# Altium schematic symbol library SchlibLafe.SchLib: 395 symbols (part 2 of 4)
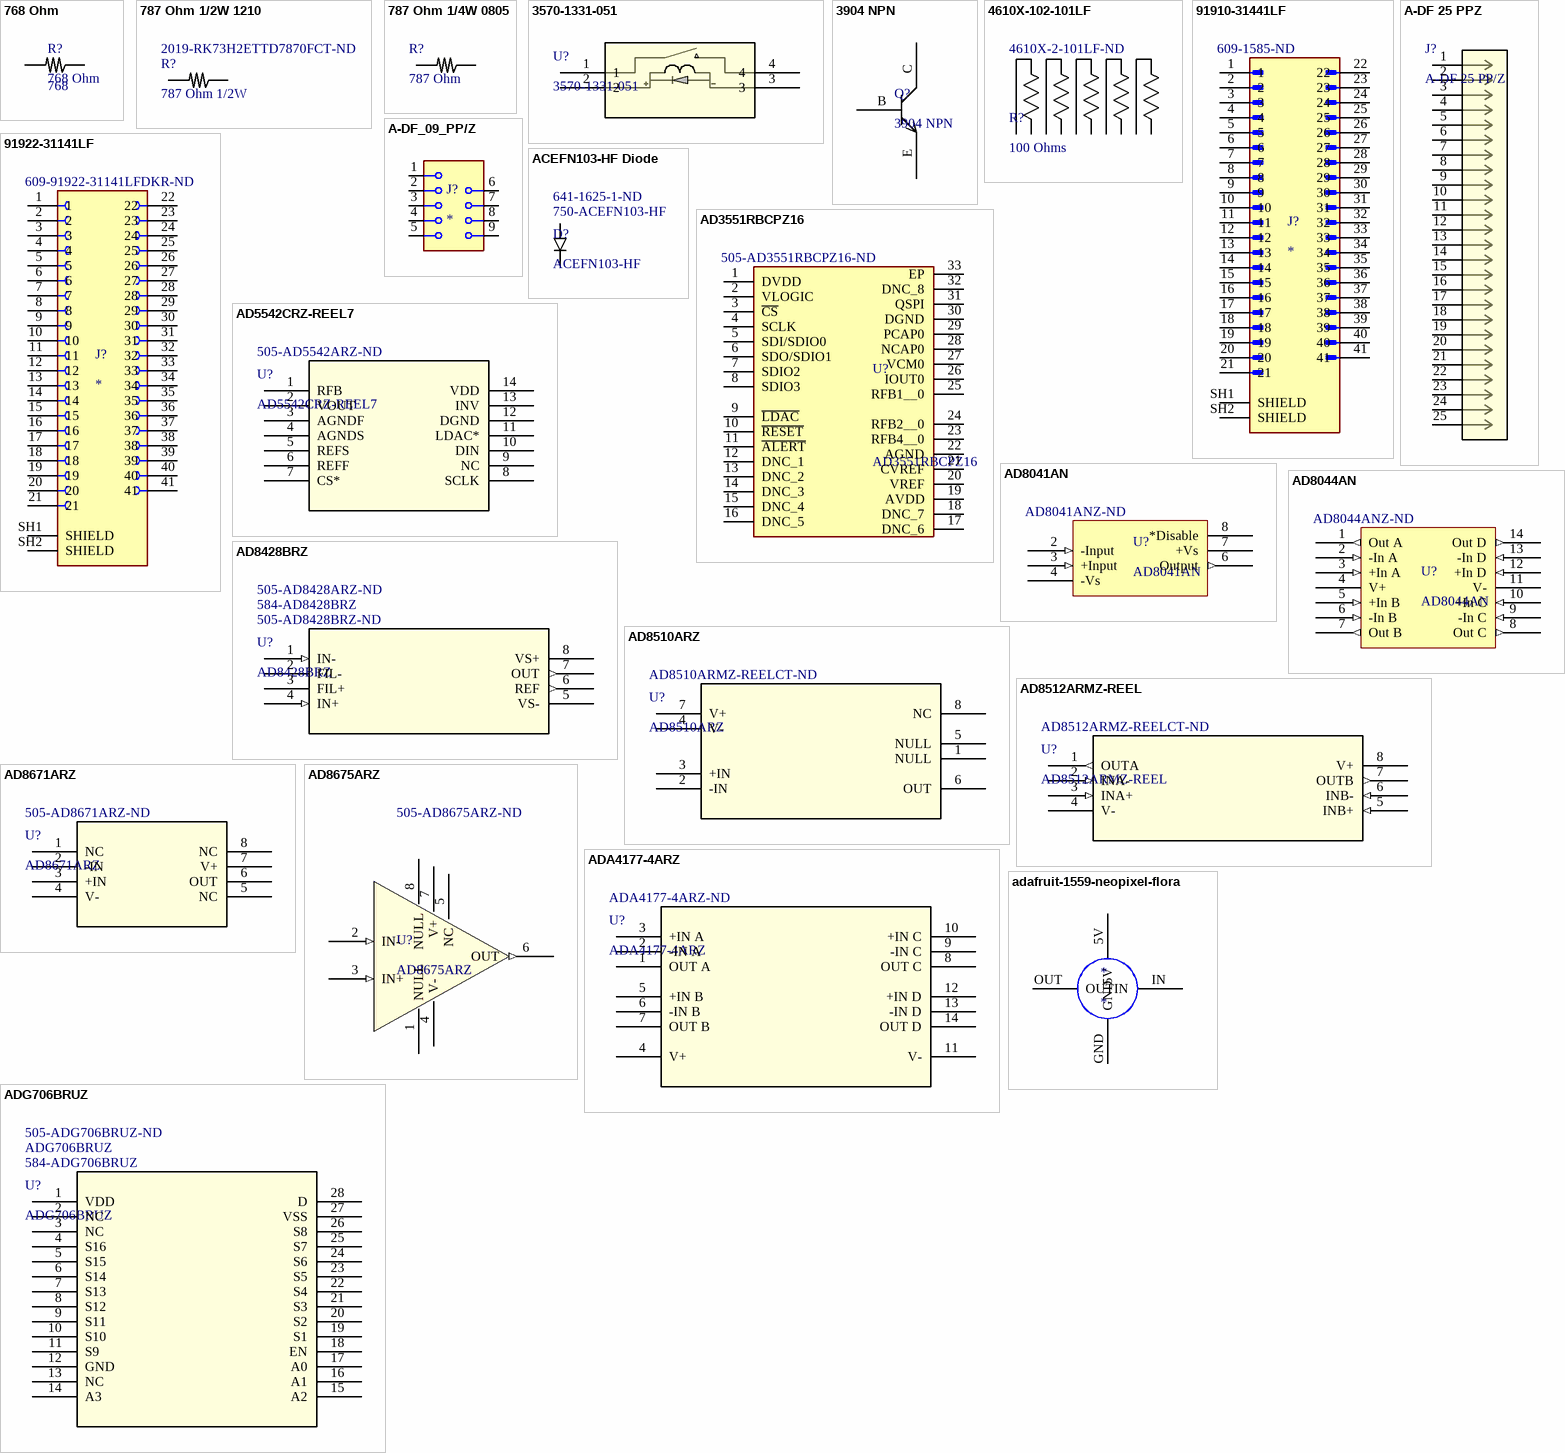
[diagram p13: symbols 768 Ohm to ADG706BRUZ]

## 787 Ohm 1/4W 0805
designator R?, comment 787 Ohm
787 Ohm resistor 0805 1/4W; Manufacturer_Part_Number: RNCP0805FTD1K00; Vendor: Stackpole International; Built_By: EMA_UL_Team; Copyright: Copyright (C) 2018 Accelerated Designs. All rights reserved; RefDes: RefDes; Type: DEV; Value: Value; Supplier 1: Digi-Key; Supplier Part Number 1: P21007CT-ND
footprint 6-0805 (Chip Resistor; Body 2 x 1.2 mm (LxW typ))
pins: 1, 2

## 3570-1331-051
designator U?
No Description Available; Mfr_Name: Comus; Copyright: Copyright (C) 2024 Ultra Librarian. All rights reserved.; Manufacturer_Part_Number: 3570-1331-051; RefDes: RefDes; Type: DEV
footprint SIP_3570-1331_COM
pins: 1, 2, 3, 4

## 3904 NPN
designator Q?
3409 NPN; Supplier 1: RSComponents; Supplier Part Number 1: 1841002
footprint SOT23-323
pins: B 1, C 3, E 2

## 4610X-102-101LF
designator R?, comment 100 Ohms  Supplier Part Number 1: 4610X-2-101LF-ND
RES ARRAY 5 RES 100 OHM 10SIP; Manufacturer_Part_Number: 4610X-102-101LF; Vendor: Bourns Electronics; Built_By: EMA_UL_Team; SourceLibrary: Bourns_2014-12-31; Copyright: Copyright (C) 2018 Accelerated Designs. All rights reserved; RefDes: RefDes; Type: DEV; Supplier 1: Digi-Key
footprint BO_4610X
pins: 1, 2, 3, 4, 5, 6, 7, 8, 9, 10

## 91910-31441LF
designator J?  Supplier Part Number 1: 609-1585-ND
41 Position Connector Header, Center Strip Contacts Surface Mount Gold or Gold, GXT™; MF: Amphenol ICC (FCI); MP: 91910-31441LF; Package: None; Price: None; Value: *; Availability: Unavailable; Supplier 1: Digi-Key
footprint AMPHENOL_91910-31441LF
pins: 1, 2, 3, 4, 5, 6, 7, 8, 9, 10, 11, 12, 13, 14, 15, 16, 17, 18, 19, 20, 21, 22, 23, 24, 25, 26, 27, 28, 29, 30, 31, 32, 33, 34, 35, 36, 37, 38, 39, 40, 41, SH1 SHIELD, SH2 SHIELD

## 91922-31141LF
designator J?  Supplier Part Number 1: 609-91922-31141LFDKR-ND
41 Position Connector Receptacle, Outer Shroud Contacts Surface Mount Gold or Gold, GXT™; MF: {'manufacturer': u'Amphenol ICC (FCI)'}; MP: 91922-31141LF; Package: None; Price: None; Value: *; Availability: Unavailable; Supplier 1: Digi-Key
footprint AMPHENOL_91922-31141LF
pins: 1, 2, 3, 4, 5, 6, 7, 8, 9, 10, 11, 12, 13, 14, 15, 16, 17, 18, 19, 20, 21, 22, 23, 24, 25, 26, 27, 28, 29, 30, 31, 32, 33, 34, 35, 36, 37, 38, 39, 40, 41, SH1 SHIELD, SH2 SHIELD

## A-DF 25 PPZ
designator J?, comment A-DF 25 PP/Z
No Description Available; Mfr_Name: Assmann; Copyright: Copyright (C) 2024 Ultra Librarian. All rights reserved.; Manufacturer_Part_Number: A-DF 25 PP/Z; RefDes: RefDes; Type: DEV
footprint CONN_A-DF 25 PPZ_ASM
pins: 1, 2, 3, 4, 5, 6, 7, 8, 9, 10, 11, 12, 13, 14, 15, 16, 17, 18, 19, 20, 21, 22, 23, 24, 25

## A-DF_09_PP/Z
designator J?
CONN D-SUB RCPT 9POS VERT SOLDER; MP: A-DF_09_PP/Z; Package: None; Price: None; Value: *; Availability: Unavailable
footprint ASSMANN_A-DF_09_PP/Z
pins: 1, 2, 3, 4, 5, 6, 7, 8, 9

## ACEFN103-HF Diode
designator D?, comment ACEFN103-HF  Supplier Part Number 1: 750-ACEFN103-HF  Supplier Part Number 2: 641-1625-1-ND
DIODE GEN PURP 600V 1A 1206; Supplier 1: Mouser; Supplier 2: Digi-Key
footprint 8-1206 diode (Chip diode Body 3.1 x 1.6 mm (LxW typ))
pins: 1, 2

## AD3551RBCPZ16
designator U?  Supplier Part Number 1: 505-AD3551RBCPZ16-ND
16 Bit Digital to Analog Converter 1 32-LFCSP (5x5); Mfr_name: Analog Devices; Geometry.Height: 1mm; Notes: Pin 1 to dot; Manufacturer_Part_Number: AD3551RBCPZ16; Mouser Part Number: 584-AD3551RBCPZ16; Mouser Price/Stock: https://www.mouser.co.uk/ProductDetail/Analog-Devices/AD3551RBCPZ16?qs=MyNHzdoqoQJmAZaaW95Gzw%3D%3D; Arrow Part Number: AD3551RBCPZ16; Arrow Price/Stock: https://www.arrow.com/en/products/ad3551rbcpz16/analog-devices?region=nac; Datasheet Link: https://www.analog.com/media/en/technical-documentation/data-sheets/ad3551r.pdf; Supplier 1: Digi-Key; Desc_Value: 16 Bit Digital to Analog Converter 1 32-LFCSP (5x5); Vendor URL: https://www.digikey.com/en/products/detail/analog-devices-inc/AD3551RBCPZ16/16187362; ComponentLink1Description: Datasheet; ComponentLink1URL: https://www.analog.com/media/en/technical-documentation/data-sheets/ad3551r.pdf; Package: 32-LFCSP; Mounting Type: SMT
footprint QFN50P500X500X100-33N-D
pins: 1 DVDD, 2 VLOGIC, 3 ~{CS}, 4 SCLK, 5 SDI/SDIO0, 6 SDO/SDIO1, 7 SDIO2, 8 SDIO3, 9 ~{LDAC}, 10 ~{RESET}, 11 ~{ALERT}, 12 DNC_1, 13 DNC_2, 14 DNC_3, 15 DNC_4, 16 DNC_5, 17 DNC_6, 18 DNC_7, 19 AVDD, 20 VREF, 21 CVREF, 22 AGND, 23 RFB4__0, 24 RFB2__0, 25 RFB1__0, 26 IOUT0, 27 VCM0, 28 NCAP0, 29 PCAP0, 30 DGND, 31 QSPI, 32 DNC_8, 33 EP

## AD5542CRZ-REEL7
designator U?  Supplier Part Number 1: 505-AD5542ARZ-ND
16 Bit Digital to Analog Converter 1 14-SOIC; Mfr_Name: Analog Devices Inc; Copyright: Copyright (C) 2022 Ultra Librarian. All rights reserved.; Manufacturer_Part_Number: AD5542CRZ-REEL7; Digi-Key_Part_Number_1: AD5542CRZ-REEL7-ND; Digi-Key_Part_Number_2: AD5542CRZ-REEL7CT-ND; Digi-Key_Part_Number_3: AD5542CRZ-REEL7DKR-ND; Digi-Key_Part_Number_4: AD5542CRZ-REEL7TR-ND; RefDes: RefDes; Type: DEV; Supplier 1: Digi-Key
footprint R_14_ADI
pins: 1 RFB, 2 VOUT, 3 AGNDF, 4 AGNDS, 5 REFS, 6 REFF, 7 CS*, 8 SCLK, 9 NC, 10 DIN, 11 LDAC*, 12 DGND, 13 INV, 14 VDD (power)

## AD8041AN
designator U?  Supplier Part Number 1: AD8041ANZ-ND
Voltage Feedback Amplifier 1 Circuit Rail-to-Rail 8-PDIP; Supplier 1: Digi-Key
footprint N_8
pins: 1 NC hidden, 2 -Input (in), 3 +Input (in), 4 -Vs, 5 NC hidden, 6 Output (out), 7 +Vs, 8 *Disable

## AD8044AN
designator U?  Supplier Part Number 1: AD8044ANZ-ND
Voltage Feedback Amplifier 4 Circuit Rail-to-Rail 14-PDIP; Supplier 1: Digi-Key
simulation model AD8044a (AD8044)
footprint N_14
pins: 1 Out A (out), 2 -In A (in), 3 +In A (in), 4 V+, 5 +In B (in), 6 -In B (in), 7 Out B (out), 8 Out C (out), 9 -In C (in), 10 +In C (in), 11 V-, 12 +In D (in), 13 -In D (in), 14 Out D (out)

## AD8428BRZ
designator U?  Supplier Part Number 1: 505-AD8428BRZ-ND  Supplier Part Number 2: 584-AD8428BRZ  Supplier Part Number 3: 505-AD8428ARZ-ND
Instrumentation Amplifier 1 Circuit 8-SOIC; Mfr_Name: Analog Devices Inc; Manufacturer_Part_Number: AD8428ARZ; Copyright: Copyright (C) 2021 Ultra Librarian. All rights reserved.; Digi-Key_Part_Number_1: AD8428ARZ-ND; Digi-Key_Part_Number_2: 2156-AD8428ARZ-ND; RefDes: RefDes; Type: DEV; Supplier 1: Digi-Key; Supplier 2: Mouser; Supplier 3: Digi-Key
footprint R_8_ADI
simulation model AD8428 (Model Description)
pins: 1 IN- (in), 2 FIL-, 3 FIL+, 4 IN+ (in), 5 VS- (power), 6 REF (out), 7 OUT (out), 8 VS+ (power)

## AD8510ARZ
designator U?  Supplier Part Number 1: AD8510ARMZ-REELCT-ND
IC OPAMP JFET 1 CIRCUIT 8MSOP; Copyright: Copyright (C) 2018 Accelerated Designs. All rights reserved; RefDes: RefDes; Type: DEV; Supplier 1: Digi-Key
footprint R_8
pins: 1 NULL, 2 -IN, 3 +IN, 4 V-, 5 NULL, 6 OUT, 7 V+, 8 NC

## AD8512ARMZ-REEL
designator U?  Supplier Part Number 1: AD8512ARMZ-REELCT-ND
IC OPAMP JFET 2 CIRCUIT 8MSOP; Mfr_Name: Analog Devices Inc; Copyright: Copyright (C) 2022 Ultra Librarian. All rights reserved.; Manufacturer_Part_Number: AD8512ARMZ-REEL; Digi-Key_Part_Number_1: AD8512ARMZ-REELCT-ND; Digi-Key_Part_Number_2: AD8512ARMZ-REELDKR-ND; Digi-Key_Part_Number_3: AD8512ARMZ-REELTR-ND; RefDes: RefDes; Type: DEV; Supplier 1: Digi-Key
footprint RM_8_ADI
pins: 1 OUTA (out), 2 INA- (in), 3 INA+ (in), 4 V- (power), 5 INB+ (in), 6 INB- (in), 7 OUTB (out), 8 V+ (power)

## AD8671ARZ
designator U?  Supplier Part Number 1: 505-AD8671ARZ-ND
IC OPAMP GP 1 CIRCUIT 8SOIC; Mfr_Name: Analog Devices Inc; Copyright: Copyright (C) 2022 Ultra Librarian. All rights reserved.; Manufacturer_Part_Number: AD8671ARZ; Digi-Key_Part_Number_1: AD8671ARZ-ND; Digi-Key_Part_Number_2: 2156-AD8671ARZ-ND; RefDes: RefDes; Type: DEV; Supplier 1: Digi-Key
footprint R_8_ADI
simulation model AD8671 (Model Description)
pins: 1 NC, 2 -IN, 3 +IN, 4 V- (power), 5 NC, 6 OUT, 7 V+ (power), 8 NC

## AD8675ARZ
designator U?  Supplier Part Number 1: 505-AD8675ARZ-ND
General Purpose Amplifier 1 Circuit Rail-to-Rail 8-SOIC; Mfr_Name: Analog Devices Inc; Desc_Value: IC OPAMP GP 1 CIRCUIT 8SOIC; Notes: Pin 1 to dot; Copyright: Copyright (C) 2023 Ultra Librarian. All rights reserved.; Manufacturer_Part_Number: AD8675ARZ; RefDes: RefDes; Type: DEV; Supplier 1: Digi-Key; Vendor URL: https://www.digikey.com/en/products/detail/analog-devices-inc/AD8675ARZ/1217542; Package: 8SOIC; Mounting Type: SMT
footprint R_8_ADI
pins: 1 NULL, 2 IN- (in), 3 IN+ (in), 4 V- (power), 5 NC, 6 OUT (out), 7 V+ (power), 8 NULL

## ADA4177-4ARZ
designator U?  Supplier Part Number 1: ADA4177-4ARZ-ND
Quad 25mA opamp; Mfr_Name: Analog Devices Inc; Copyright: Copyright (C) 2021 Ultra Librarian. All rights reserved.; Manufacturer_Part_Number: ADA4177-4ARZ; Digi-Key_Part_Number_1: ADA4177-4ARZ-ND; Digi-Key_Part_Number_2: 2156-ADA4177-4ARZ-ND; RefDes: RefDes; Type: DEV; Supplier 1: Digi-Key
footprint R_14_ADI
pins: 1 OUT A, 2 -IN A, 3 +IN A, 4 V+, 5 +IN B, 6 -IN B, 7 OUT B, 8 OUT C, 9 -IN C, 10 +IN C, 11 V-, 12 +IN D, 13 -IN D, 14 OUT D

## adafruit-1559-neopixel-flora
designator *
footprint adafruit-1559-neopixel-flora
pins: 5V, GND, IN, OUT

## ADG706BRUZ
designator U?  Supplier Part Number 1: 584-ADG706BRUZ  Supplier Part Number 3: 505-ADG706BRUZ-ND
IC MUX 16:1 4.5OHM 28TSSOP; Mfr_Name: Analog Devices Inc; Manufacturer_Part_Number: ADG706BRUZ-REEL; Copyright: Copyright (C) 2021 Ultra Librarian. All rights reserved.; Digi-Key_Part_Number_1: ADG706BRUZ-REELCT-ND; Digi-Key_Part_Number_2: ADG706BRUZ-REELDKR-ND; Digi-Key_Part_Number_3: ADG706BRUZ-REELTR-ND; RefDes: RefDes; Type: DEV; Supplier 1: Mouser; Supplier 2: Arrow Electronics; Supplier 3: Digi-Key; Supplier Part Number 2: ADG706BRUZ
footprint RU_28_ADI
pins: 1 VDD (power), 2 NC, 3 NC, 4 S16, 5 S15, 6 S14, 7 S13, 8 S12, 9 S11, 10 S10, 11 S9, 12 GND, 13 NC, 14 A3, 15 A2, 16 A1, 17 A0, 18 EN, 19 S1, 20 S2, 21 S3, 22 S4, 23 S5, 24 S6, 25 S7, 26 S8, 27 VSS (power), 28 D

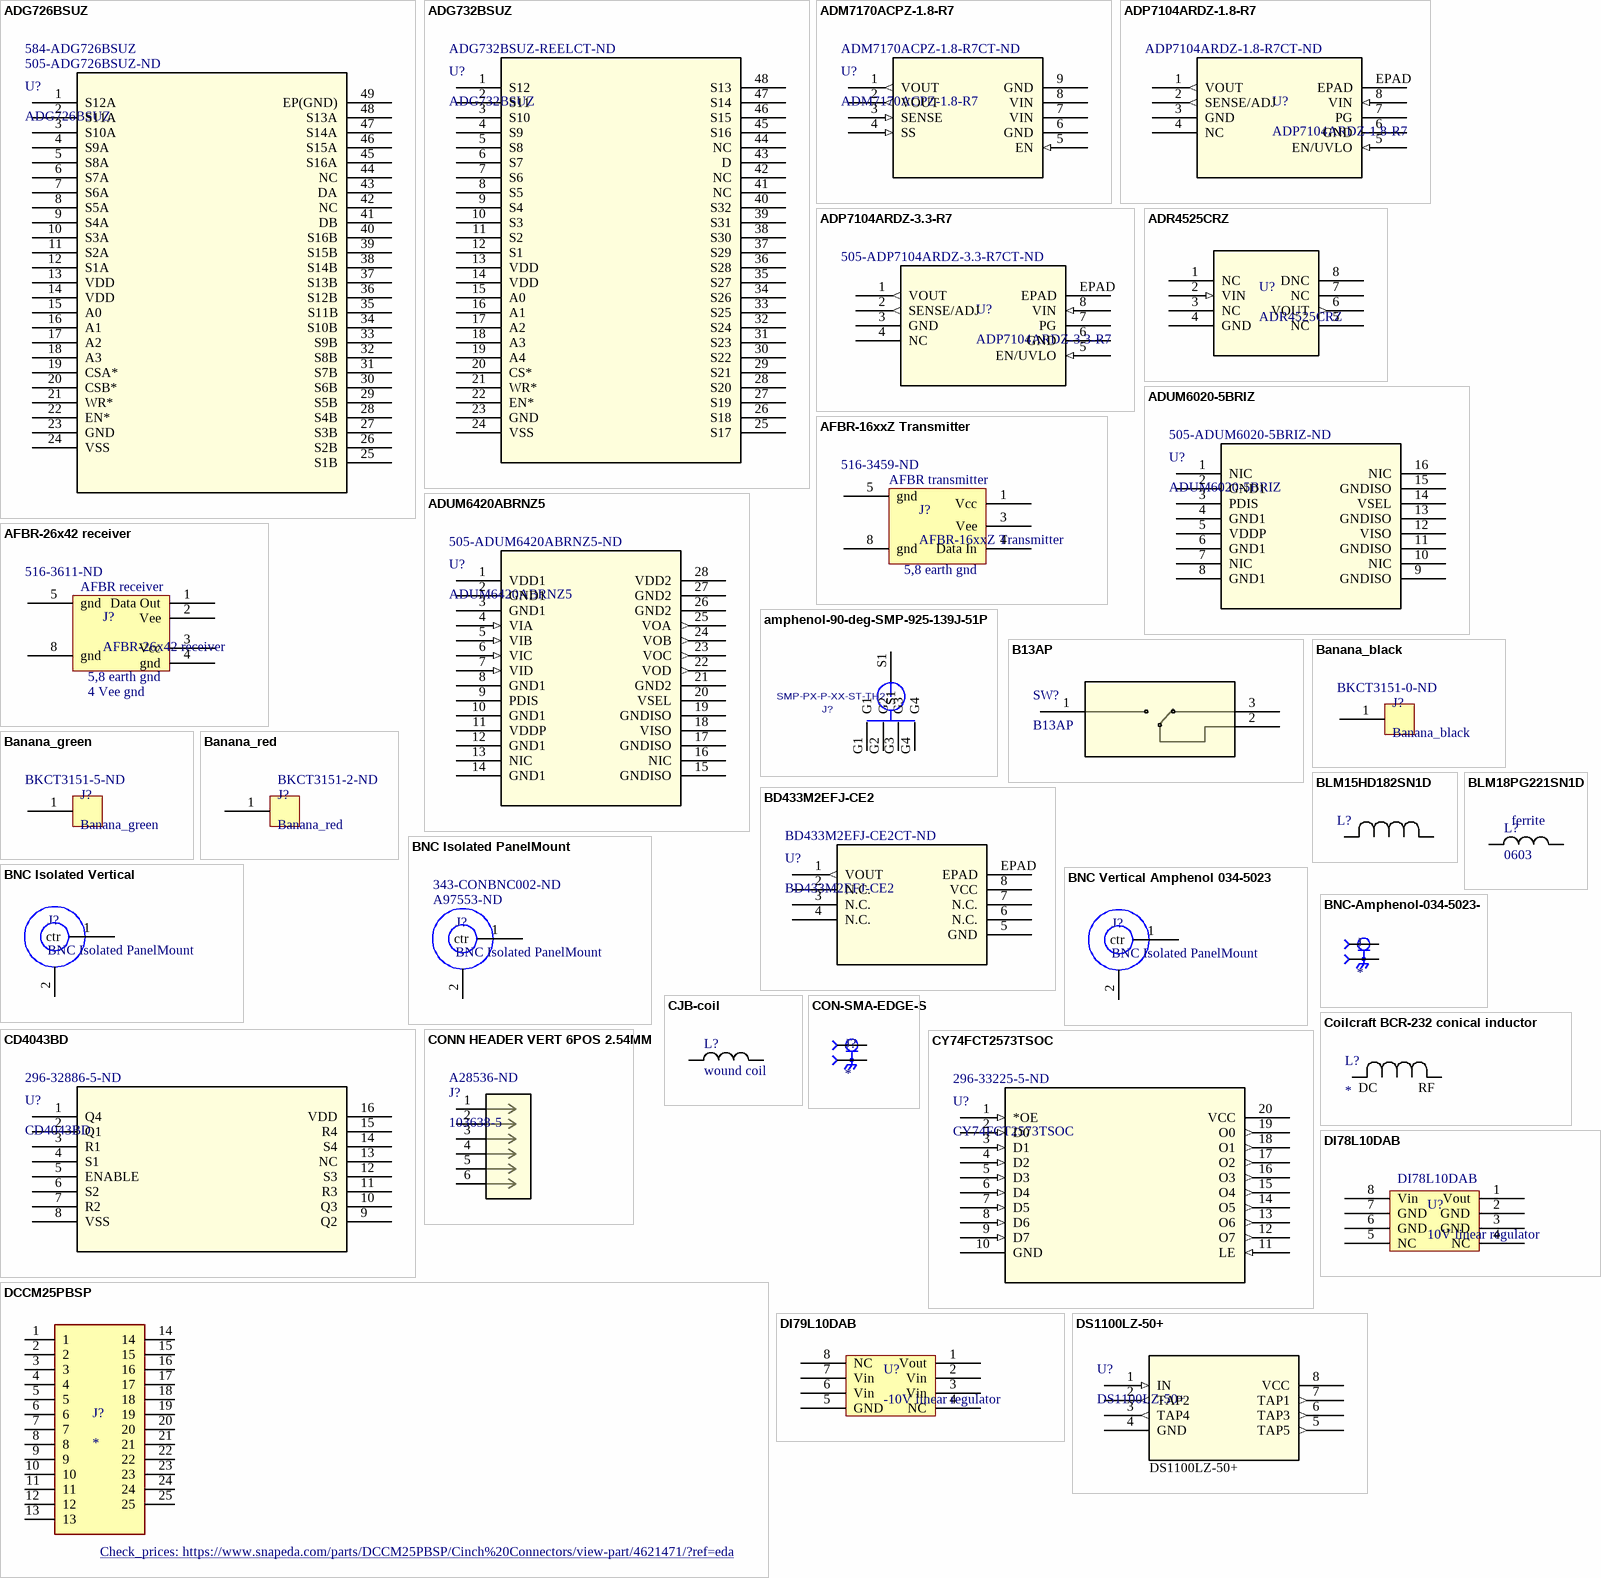
[diagram p5: symbols ADG726BSUZ to DS1100LZ-50+]

## ADG726BSUZ
designator U?  Supplier Part Number 1: 505-ADG726BSUZ-ND  Supplier Part Number 2: 584-ADG726BSUZ
2 Circuit IC Switch 16:1 5.5Ohm 48-TQFP (7x7); Mfr_Name: Analog Devices Inc; Copyright: Copyright (C) 2021 Ultra Librarian. All rights reserved.; Manufacturer_Part_Number: ADG726BSUZ; Digi-Key_Part_Number_1: ADG726BSUZ-ND; RefDes: RefDes; Type: DEV; Supplier 1: Digi-Key; Supplier 2: Mouser
footprint SU_48_ADI
pins: 1 S12A, 2 S11A, 3 S10A, 4 S9A, 5 S8A, 6 S7A, 7 S6A, 8 S5A, 9 S4A, 10 S3A, 11 S2A, 12 S1A, 13 VDD (power), 14 VDD (power), 15 A0, 16 A1, 17 A2, 18 A3, 19 CSA*, 20 CSB*, 21 WR*, 22 EN*, 23 GND, 24 VSS (power), 25 S1B, 26 S2B, 27 S3B, 28 S4B, 29 S5B, 30 S6B, 31 S7B, 32 S8B, 33 S9B, 34 S10B, 35 S11B, 36 S12B, 37 S13B, 38 S14B, 39 S15B, 40 S16B, 41 DB, 42 NC, 43 DA, 44 NC, 45 S16A, 46 S15A, 47 S14A, 48 S13A, 49 EP(GND)

## ADG732BSUZ
designator U?  Supplier Part Number 1: ADG732BSUZ-REELCT-ND
IC MUX 32:1 5.5OHM 48TQFP; Vendor: Analog Devices Inc; Built_By: EMA_UL_Team; SourceLibrary: Analog_2012-01-01_7; Manufacturer_Part_Number: ADG732BSUZ; Copyright: Copyright (C) 2018 Accelerated Designs. All rights reserved; RefDes: RefDes; Type: DEV; Supplier 1: Digi-Key
footprint SU_48_ADI
pins: 1 S12, 2 S11, 3 S10, 4 S9, 5 S8, 6 S7, 7 S6, 8 S5, 9 S4, 10 S3, 11 S2, 12 S1, 13 VDD (power), 14 VDD (power), 15 A0, 16 A1, 17 A2, 18 A3, 19 A4, 20 CS*, 21 WR*, 22 EN*, 23 GND, 24 VSS (power), 25 S17, 26 S18, 27 S19, 28 S20, 29 S21, 30 S22, 31 S23, 32 S24, 33 S25, 34 S26, 35 S27, 36 S28, 37 S29, 38 S30, 39 S31, 40 S32, 41 NC, 42 NC, 43 D, 44 NC, 45 S16, 46 S15, 47 S14, 48 S13

## ADM7170ACPZ-1.8-R7
designator U?  Supplier Part Number 1: ADM7170ACPZ-1.8-R7CT-ND
Linear Voltage Regulator IC Positive Fixed 1 Output 500mA 8-LFCSP-WD (3x3); Mfr_Name: Analog Devices Inc; Type: DEV; Copyright: Copyright (C) 2023 Ultra Librarian. All rights reserved.; Manufacturer_Part_Number: ADM7170ACPZ-1.8-R7; RefDes: RefDes; Supplier 1: Digi-Key
footprint CP-8-21_ADI
pins: 1 VOUT (out), 2 VOUT (out), 3 SENSE (in), 4 SS (in), 5 EN (in), 6 GND (power), 7 VIN (power), 8 VIN (power), 9 GND (power)

## ADP7104ARDZ-1.8-R7
designator U?  Supplier Part Number 1: ADP7104ARDZ-1.8-R7CT-ND
IC REG LINEAR 1.8V 500MA 8SOIC; Mfr_Name: Analog Devices Inc; Notes: Pin 1 to dot; Copyright: Copyright (C) 2023 Ultra Librarian. All rights reserved.; Manufacturer_Part_Number: ADP7104ARDZ-1.8-R7; RefDes: RefDes; Type: DEV; Supplier 1: Digi-Key; Desc_Value: IC REG LINEAR 1.8V 500MA 8SOIC; Vendor URL: https://www.digikey.com/en/products/detail/analog-devices-inc/ADP7104ARDZ-1-8-R7/3232858; Package: 8SOIC; Mounting Type: SMT; ComponentLink1Description: Datasheet; ComponentLink1URL: https://www.analog.com/media/en/technical-documentation/data-sheets/ADP7104.pdf
footprint RD_8_2_ADI
pins: 1 VOUT (out), 2 SENSE/ADJ (out), 3 GND (power), 4 NC, 5 EN/UVLO (in), 6 GND (power), 7 PG (power), 8 VIN (in), EPAD

## ADP7104ARDZ-3.3-R7
designator U?  Supplier Part Number 1: 505-ADP7104ARDZ-3.3-R7CT-ND
Linear Voltage Regulator IC Positive Fixed 1 Output 500mA 8-SOIC-EP; Mfr_Name: Analog Devices Inc; Desc_Value: IC REG LINEAR 3.3V 500MA 8SOIC; Notes: Pin to dot; Copyright: Copyright (C) 2023 Ultra Librarian. All rights reserved.; Manufacturer_Part_Number: ADP7104ARDZ-3.3-R7; RefDes: RefDes; Type: DEV; Supplier 1: Digi-Key; Vendor URL: https://www.digikey.com/en/products/detail/analog-devices-inc/ADP7104ARDZ-3-3-R7/3232850; Package: 8SOIC; Mounting Type: SMT; ComponentLink1Description: Datasheet; ComponentLink1URL: https://www.analog.com/media/en/technical-documentation/data-sheets/ADP7104.pdf
footprint RD_8_2_ADI
pins: 1 VOUT (out), 2 SENSE/ADJ (out), 3 GND (power), 4 NC, 5 EN/UVLO (in), 6 GND (power), 7 PG (power), 8 VIN (in), EPAD

## ADR4525CRZ
designator U?
Series Voltage Reference IC Fixed 2.5V V ±0.02% 10 mA 8-SOIC; Mfr_Name: Analog Devices Inc; Manufacturer_Part_Number: ADR4525CRZ-R7; Desc_Value: IC VREF SERIES 0.02% 8SOIC; Notes: Pin 1 to dot; Copyright: Copyright (C) 2023 Ultra Librarian. All rights reserved.; RefDes: RefDes; Type: DEV; Supplier 1: Digi-Key; Supplier Part Number 1: 505-ADR4525CRZ-ND; Vendor URL: https://www.digikey.com/en/products/detail/analog-devices-inc/ADR4525CRZ-R7/9806176; Package: 8SOIC; Mounting Type: SMT; ComponentLink1Description: Datasheet; ComponentLink1URL: https://www.analog.com/media/en/technical-documentation/data-sheets/ADR4520_4525_4530_4533_4540_4550.pdf
footprint R_8_ADI
pins: 1 NC, 2 VIN (in), 3 NC, 4 GND (power), 5 NC, 6 VOUT (out), 7 NC, 8 DNC

## ADUM6020-5BRIZ
designator U?  Supplier Part Number 1: 505-ADUM6020-5BRIZ-ND
Isolated Module DC DC Converter 1 Output 3.3V, 5V 100mA 4.5V - 5.5V Input; Mfr_Name: Analog Devices Inc; Desc_Value: DC DC CONVERTER 3.3V 5V 0.5W; Notes: Pin 1 to dot; Copyright: Copyright (C) 2023 Ultra Librarian. All rights reserved.; Manufacturer_Part_Number: ADUM6020-5BRIZ; RefDes: RefDes; Type: DEV; Supplier 1: Digi-Key; Vendor URL: https://www.digikey.com/en/products/detail/analog-devices-inc/ADUM6020-5BRIZ/9485497; Package: 16SOIC; Mounting Type: SMT
footprint ADUM6020-5BRIZ_ADI
pins: 1 NIC, 2 GND1, 3 PDIS, 4 GND1, 5 VDDP, 6 GND1, 7 NIC, 8 GND1, 9 GNDISO, 10 NIC, 11 GNDISO, 12 VISO, 13 GNDISO, 14 VSEL, 15 GNDISO, 16 NIC

## ADUM6420ABRNZ5
designator U?  Supplier Part Number 1: 505-ADUM6420ABRNZ5-ND
General Purpose Digital Isolator 5000Vrms 4 Channel 100Mbps 75kV/µs CMTI 28-BSSOP (0.295", 7.50mm Width); Mfr_Name: Analog Devices Inc; Desc_Value: DGTL ISO 5KV 4CH GEN PRP 28SOIC; Notes: Pin 1 to dot; Type: DEV; Copyright: Copyright (C) 2023 Ultra Librarian. All rights reserved.; Manufacturer_Part_Number: ADUM6420ABRNZ5; RefDes: RefDes; Supplier 1: Digi-Key; Vendor URL: https://www.digikey.com/en/products/detail/analog-devices-inc/ADUM6420ABRNZ5/11587195; Package: SOIC-28; Mounting Type: SMT; ComponentLink1Description: Datasheet; ComponentLink1URL: https://www.analog.com/media/en/technical-documentation/data-sheets/adum6420a-6421a-6422a_6423a_6424a.pdf
footprint RN-28-1_ADI
pins: 1 VDD1 (power), 2 GND1 (power), 3 GND1 (power), 4 VIA (in), 5 VIB (in), 6 VIC (in), 7 VID (in), 8 GND1 (power), 9 PDIS, 10 GND1 (power), 11 VDDP (power), 12 GND1 (power), 13 NIC, 14 GND1 (power), 15 GNDISO (power), 16 NIC, 17 GNDISO (power), 18 VISO (power), 19 GNDISO (power), 20 VSEL (power), 21 GND2 (power), 22 VOD (out), 23 VOC (out), 24 VOB (out), 25 VOA (out), 26 GND2 (power), 27 GND2 (power), 28 VDD2 (power)

## AFBR-16xxZ Transmitter
designator J?  Supplier Part Number 1: 516-3459-ND
Fiber Optic Transmitter 650nm Versatile Link; Supplier 1: Digi-Key
footprint AFBR-2634Z_1
pins: 1 Vcc, 3 Vee, 4 Data In, 5 gnd, 8 gnd
text: AFBR transmitter; 5,8 earth gnd

## AFBR-26x42 receiver
designator J?  Supplier Part Number 1: 516-3611-ND
Fiber Optic Receiver General Purpose 50MBd -22dBm 3.3V, 5V 30 mA; Supplier 1: Digi-Key
footprint AFBR-2634Z_1
pins: 1 Data Out, 2 Vee, 3 Vcc, 4 gnd, 5 gnd, 8 gnd
text: AFBR receiver; 5,8 earth gnd; 4 Vee gnd

## amphenol-90-deg-SMP-925-139J-51P
designator J?, comment SMP-PX-P-XX-ST-TH2
SMP THROUGH HOLE PLUG - 50 OHM.; MANUFACTURER: SAMTEC; CREATED: October 23, 2015 - Wendy Xin; PCB DECAL: SMP-PX-P-XX-ST-TH2
footprint amphenol-smp-90deg-925-139J-51P
pins: G1, G2, G3, G4, S1

## B13AP
designator SW?
No Description Available; Mfr_Name: NKK Switches; Copyright: Copyright (C) 2024 Ultra Librarian. All rights reserved.; Manufacturer_Part_Number: B13AP; RefDes: RefDes; Type: DEV
footprint B13AP_NKK
pins: 1, 2, 3

## Banana_black
designator J?  Supplier Part Number 1: BKCT3151-0-ND
pcb mount, right angle banana; Supplier 1: Digi-Key
footprint banana - pcb mount (pcb mount, thru hole, right angle panel mount)
pins: 1

## Banana_green
designator J?  Supplier Part Number 1: BKCT3151-5-ND
pcb mount, right angle banana; Supplier 1: Digi-Key
footprint banana - pcb mount (pcb mount, thru hole, right angle panel mount)
pins: 1

## Banana_red
designator J?  Supplier Part Number 1: BKCT3151-2-ND
pcb mount, right angle banana; Supplier 1: Digi-Key
footprint banana - pcb mount (pcb mount, thru hole, right angle panel mount)
pins: 1

## BD433M2EFJ-CE2
designator U?  Supplier Part Number 1: BD433M2EFJ-CE2CT-ND
IC LDO 3.3V 200mA; Mfr_Name: ROHM Semiconductor; Copyright: Copyright (C) 2022 Ultra Librarian. All rights reserved.; Manufacturer_Part_Number: BD433M2EFJ-CE2; Digi-Key_Part_Number_1: BD433M2EFJ-CE2TR-ND; Digi-Key_Part_Number_2: BD433M2EFJ-CE2CT-ND; Digi-Key_Part_Number_3: BD433M2EFJ-CE2DKR-ND; RefDes: RefDes; Type: DEV; Supplier 1: Digi-Key
footprint HTSOP-J8_ROM
pins: 1 VOUT (out), 2 N.C., 3 N.C., 4 N.C., 5 GND, 6 N.C., 7 N.C., 8 VCC (power), EPAD

## BLM15HD182SN1D
designator L?  (value not drawn)
1.8 kOhms @ 100 MHz 1 Signal Line Ferrite Bead 0402 (1005 Metric) 200mA 2.2Ohm; Mfr_Name: Murata; Type: DEV; Desc_Value: FERRITE BEAD 1.8K OHM 0402 1LN; Copyright: Copyright (C) 2023 Ultra Librarian. All rights reserved.; Manufacturer_Part_Number: BLM15HD182SN1D; RefDes: RefDes; Supplier 1: Digi-Key; Supplier Part Number 1: 490-5196-1-ND; Vendor URL: https://www.digikey.com/en/products/detail/murata-electronics/BLM15HD182SN1D/1948302; Package: 0402; Mounting Type: SMT
footprint IND_BLM15_0402_MUR
pins: 1, 2

## BLM18PG221SN1D
designator L?, comment 0603
ferrite; Supplier 1: Digi-Key; Supplier Part Number 1: 490-5221-1-ND
footprint 3-0603 (Chip Resistor; Body 1.6 x 0.9 mm (LxW typ))
pins: 1, 2

## BNC Isolated PanelMount
designator J?  Supplier Part Number 1: A97553-ND  Supplier Part Number 2: 343-CONBNC002-ND
BNC; Supplier 1: Digi-Key; Supplier 2: Digi-Key
footprint conn2_1-1337543-
pins: 1 ctr, 2 gnd

## BNC Isolated Vertical
designator J?, comment BNC Isolated PanelMount
CONN BNC JACK STR 50 OHM PCB; Supplier 1: Digi-Key; Supplier Part Number 1: A32262-ND
footprint CONN_5227222-3_TYC
pins: 1 ctr, 2 gnd

## BNC Vertical Amphenol 034-5023
designator J?, comment BNC Isolated PanelMount
BNC Vertical Amphenol 034-5023; Supplier 1: Newark; Supplier Part Number 1: 90W0187
footprint BNC-amphenol-034-5023 (BNC thru hole, panel mount)
pins: 1 ctr, 2 gnd

## BNC-Amphenol-034-5023-
designator J
BNC panel mount thru hole; MF: Samtec; MP: SMA-J-P-H-ST-TH1; Package: None; Value: *; Price: None; Toby_UK-Purchase-URL: https://snapeda.com/shop?store=Toby+UK&id=134499; DigiKey-Purchase-URL: https://snapeda.com/shop?store=DigiKey&id=134499; Availability: Unavailable; SnapEDA_Link: https://www.snapeda.com/parts/SMA-J-P-H-ST-TH1/Samtec%20Inc./view-part/134499/?ref=snap; Supplier 1: Newark; Supplier Part Number 1: 90W0187
footprint BNC-Amphenol-034-5023-
pins: ctr, gnd

## CD4043BD
designator U?  Supplier Part Number 1: 296-32886-5-ND
CMOS Quad NOR R/S Latch with 3-State Outputs; Manufacturer: Texas Instruments; INDUSTRY_STD_PKG_TYPE: SOIC; FAMILY_NAME: OTHER LATCH; PIN_COUNT: 16; PACKAGE_DESIGNATOR: D; Datasheet_URL: http://www.ti.com/lit/gpn/CD4043B; GENERIC_PART_NUMBER: CD4043B; Copyright: Copyright (C) 2021 Accelerated Designs. All rights reserved; RefDes: RefDes; Type: DEV; Supplier 1: Digi-Key
footprint D16
pins: 1 Q4, 2 Q1, 3 R1, 4 S1, 5 ENABLE, 6 S2, 7 R2, 8 VSS (power), 9 Q2, 10 Q3, 11 R3, 12 S3, 13 NC, 14 S4, 15 R4, 16 VDD (power)

## CJB-coil
designator L?, comment wound coil
INDUCTOR
footprint CJB-coil inductor
pins: 1, 2

## Coilcraft BCR-232 conical inductor
designator L?
No Description Available; Mfr_Name: Murata
footprint Coilcraft BCR-232 conical inductor
pins: 1, 2
text: DC / DC; RF

## CON-SMA-EDGE-S
designator J?
SMA Connector Jack, Female Socket - Board Edge, End Launch Solder; MF: RF Solutions; MP: CON-SMA-EDGE-S; Value: *; SnapEDA_Link: https://www.snapeda.com/parts/CON-SMA-EDGE-S/RF+Solutions/view-part/?ref=snap; Purchase-URL: https://pricing.snapeda.com/search/part/CON-SMA-EDGE-S/?ref=eda; Check_prices: https://www.snapeda.com/parts/CON-SMA-EDGE-S/RF+Solutions/view-part/?ref=eda; Digi-Key_Part_Number: CON-SMA-EDGE-S-ND; Package: None
footprint RFSOLUTIONS_CON-SMA-EDGE-S
pins: 1, G1 2, G2 2, G3 2, G4 2

## CONN HEADER VERT 6POS 2.54MM
designator J?, comment 103638-5  Supplier Part Number 1: A28536-ND
Connector Header Through Hole 6 position 0.100" (2.54mm); Vendor: TE Connectivity; Built_By: EMA_Anthony; ROWS/CONFIG: 1; PITCH(MM): 2.54; POSITIONS: 6; SourceLibrary: TE_Connectivity_250_Part_Delivery_1_2018-08-13; Copyright: Copyright (C) 2016 Accelerated Designs. All rights reserved; Manufacturer_Part_Number: 103638-5; TE_Part_Number: 103638-5; PRODUCT: Connector; Type: DEV; RefDes: RefDes; Supplier 1: Digi-Key
footprint CONN6_103638_P695XP200_TEC
pins: 1, 2, 3, 4, 5, 6

## CY74FCT2573TSOC
designator U?  Supplier Part Number 1: 296-33225-5-ND
Octal D-Type Transparent Latches with 3-State Outputs and Series Damping Resistors; Manufacturer: Texas Instruments; INDUSTRY_STD_PKG_TYPE: SOIC; FAMILY_NAME: D-TYPE LATCH; PIN_COUNT: 20; PACKAGE_DESIGNATOR: DW; Datasheet_URL: http://www.ti.com/lit/gpn/CY74FCT2573T; GENERIC_PART_NUMBER: CY74FCT2573T; Copyright: Copyright (C) 2021 Accelerated Designs. All rights reserved; RefDes: RefDes; Type: DEV; Supplier 1: Digi-Key
footprint DW20
pins: 1 *OE (in), 2 D0 (in), 3 D1 (in), 4 D2 (in), 5 D3 (in), 6 D4 (in), 7 D5 (in), 8 D6 (in), 9 D7 (in), 10 GND (power), 11 LE (in), 12 O7 (out), 13 O6 (out), 14 O5 (out), 15 O4 (out), 16 O3 (out), 17 O2 (out), 18 O1 (out), 19 O0 (out), 20 VCC (power)

## DCCM25PBSP
designator J?
Commercial PCB Mount Connector | Plug | 25 Positions | Yellow Chromate over Cadmium | Thermoset, Glass-Reinforced, Diallyl Phthalate | Male | Straight PCB | Standard Profile | Jackpost; MP: DCCM25PBSP; MF: Cinch Connectivity Solutions; Digi-Key_Part_Number: 116-1298-ND; Package: None; Value: *; Purchase-URL: https://pricing.snapeda.com/search/part/DCCM25PBSP/?ref=eda; SnapEDA_Link: https://www.snapeda.com/parts/DCCM25PBSP/Cinch%20Connectors/view-part/4621471/?ref=snap; Check_prices: https://www.snapeda.com/parts/DCCM25PBSP/Cinch%20Connectors/view-part/4621471/?ref=eda
footprint BEL_DCCM25PBSP
pins: 1, 2, 3, 4, 5, 6, 7, 8, 9, 10, 11, 12, 13, 14, 15, 16, 17, 18, 19, 20, 21, 22, 23, 24, 25

## DI78L10DAB
designator U?, comment 10V linear regulator  Supplier Part Number 1: DI78L10DAB
Linear Voltage Regulator IC Positive Fixed 1 Output 100mA 8-SO; Supplier 1: Arrow Electronics
footprint SO-8_S_LIT
pins: 1 Vout, 2 GND, 3 GND, 4 NC, 5 NC, 6 GND, 7 GND, 8 Vin

## DI79L10DAB
designator U?, comment -10V linear regulator
Linear Voltage Regulator IC Positive Fixed 1 Output 100mA 8-SO
footprint SO-8_S_LIT
pins: 1 Vout, 2 Vin, 3 Vin, 4 NC, 5 GND, 6 Vin, 7 Vin, 8 NC

## DS1100LZ-50+
designator U?
50ns delay; Vendor: Maxim Integrated Products; SourceLibrary: Maxim_2019-05-07; Copyright: Copyright (C) 2018 Accelerated Designs. All rights reserved; Revision: 3; RefDes: RefDes; Type: DEV; Supplier 1: Digi-Key; Supplier Part Number 1: 175-DS1100LZ-50+TCT-ND; Manufacturer_Part_Number: DS1100LZ-50+
footprint 21-0041B_8_MXM
pins: 1 IN (in), 2 TAP2 (out), 3 TAP4 (out), 4 GND (power), 5 TAP5 (out), 6 TAP3 (out), 7 TAP1 (out), 8 VCC (power)

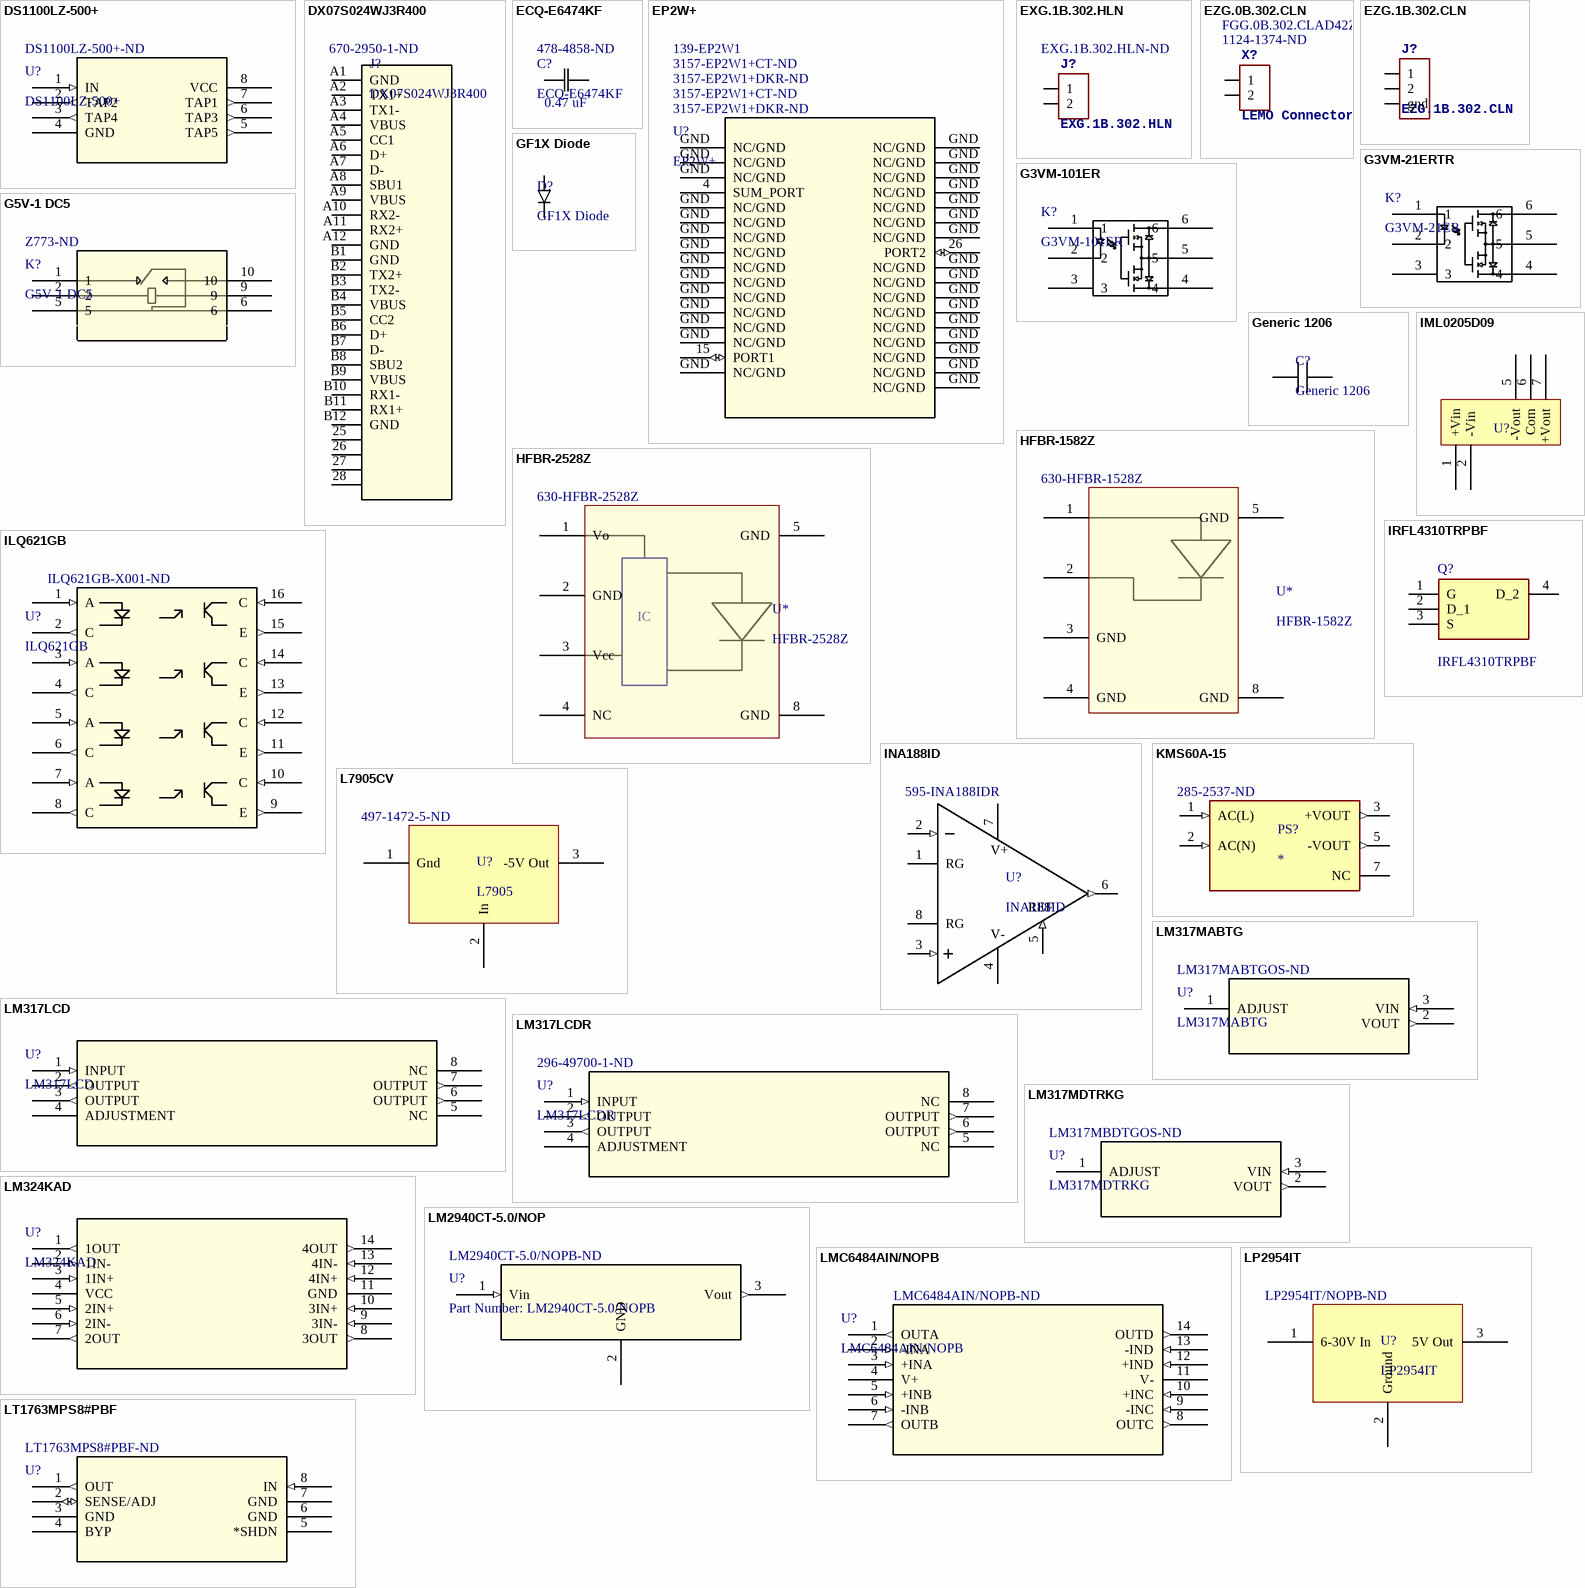
[diagram p6: symbols DS1100LZ-500+ to LT1763MPS8#PBF]

## DS1100LZ-500+
designator U?  Supplier Part Number 1: DS1100LZ-500+-ND
500ns delay; Vendor: Maxim Integrated Products; SourceLibrary: Maxim_2019-05-07; Manufacturer_Part_Number: DS1100LZ-500+; Copyright: Copyright (C) 2018 Accelerated Designs. All rights reserved; Revision: 3; RefDes: RefDes; Type: DEV; Supplier 1: Digi-Key
footprint 21-0041B_8_MXM
pins: 1 IN (in), 2 TAP2 (out), 3 TAP4 (out), 4 GND (power), 5 TAP5 (out), 6 TAP3 (out), 7 TAP1 (out), 8 VCC (power)

## DX07S024WJ3R400
designator J?  Supplier Part Number 1: 670-2950-1-ND
USB C receptical; Mfr_Name: JAE Electronics; Copyright: Copyright (C) 2022 Ultra Librarian. All rights reserved.; Manufacturer_Part_Number: DX07S024WJ3R400; Digi-Key_Part_Number_1: 670-2950-1-ND; Digi-Key_Part_Number_2: 670-2950-2-ND; Digi-Key_Part_Number_3: 670-2950-6-ND; RefDes: RefDes; Type: DEV; Supplier 1: Digi-Key
footprint CONN_DX07S024WJ3R400_JAE
footprint USB-C-SMD_HANBO_MC-232LD
pins: 25 SHIELD, 26 SHIELD, 27 SHIELD, 28 SHIELD, A1 GND, A2 TX1+, A3 TX1-, A4 VBUS, A5 CC1, A6 D+, A7 D-, A8 SBU1, A9 VBUS, A10 RX2-, A11 RX2+, A12 GND, B1 GND, B2 TX2+, B3 TX2-, B4 VBUS, B5 CC2, B6 D+, B7 D-, B8 SBU2, B9 VBUS, B10 RX1-, B11 RX1+, B12 GND

## ECQ-E6474KF
designator C?  value 0.47 uF  Supplier Part Number 1: 478-4858-ND
0.47 uF Cap; Vendor: Panasonic; Built_By: EMA_UL_Team; Type: DEV; Manufacturer_Part_Number: ECQ-E6474KF; Copyright: Copyright (C) 2018 Accelerated Designs. All rights reserved; RefDes: RefDes; Supplier 1: Digi-Key
footprint 2-pin 0.100" - capacitor (2-pin capacitor)
pins: 1, 2

## EP2W+
designator U?  Supplier Part Number 1: 3157-EP2W1+DKR-ND  Supplier Part Number 2: 3157-EP2W1+CT-ND  Supplier Part Number 5: 139-EP2W1
RF Power Divider 700 MHz ~ 6 GHz Isolation (Min) 16.8dB, 1.6 VSWR (Typ), 6° Imbalance (Max) 32-VFQFN Exposed Pad; Mfr_Name: Mini Circuits; Copyright: Copyright (C) 2023 Ultra Librarian. All rights reserved.; Manufacturer_Part_Number: EP2W+; RefDes: RefDes; Type: DEV; Supplier 1: DigiKey; Supplier 2: DigiKey; Supplier 3: DigiKey; Supplier 4: DigiKey; Supplier 5: Mouser; Supplier Part Number 3: 3157-EP2W1+DKR-ND; Supplier Part Number 4: 3157-EP2W1+CT-ND
footprint DG1677-2_MNC
pins: 4 SUM_PORT, 15 PORT1 (io), 26 PORT2 (io), GND NC/GND (power), GND NC/GND (power), GND NC/GND (power), GND NC/GND (power), GND NC/GND (power), GND NC/GND (power), GND NC/GND (power), GND NC/GND (power), GND NC/GND (power), GND NC/GND (power), GND NC/GND (power), GND NC/GND (power), GND NC/GND (power), GND NC/GND (power), GND NC/GND (power), GND NC/GND (power), GND NC/GND (power), GND NC/GND (power), GND NC/GND (power), GND NC/GND (power), GND NC/GND (power), GND NC/GND (power), GND NC/GND (power), GND NC/GND (power), GND NC/GND (power), GND NC/GND (power), GND NC/GND (power), GND NC/GND (power), GND NC/GND (power), GND NC/GND (power)

## EXG.1B.302.HLN
designator J?  Supplier Part Number 1: EXG.1B.302.HLN-ND
Mate: FGG.1B.302.CLAD42 / right angle PCB mount; MPN: EXG.1B.302.HLN; OC_FARNELL: unknown; OC_NEWARK: unknown; Supplier 1: Digi-Key
footprint EXG.1B.302.HLN
pins: 1, 2

## EZG.0B.302.CLN
designator X?, comment LEMO Connector    2 pin EZG.0B.302.CLN Straight receptacle for printed circuit, Female Contact Drawing Rev. 00 Source: http://www.lemo.com/catalog/ROW/UK_English/unipole_multipole.pdf  Supplier Part Number 1: 1124-1374-ND  Supplier Part Number 2: FGG.0B.302.CLAD42Z-ND
Mate: FGG.0B.302.CLAD42 / straight PCB mount; MPN: EZG.0B.302.CLN; OC_FARNELL: unknown; OC_NEWARK: unknown; Supplier 1: Digi-Key; Supplier 2: Digi-Key
footprint EZG.0B.302.CLN
pins: 1, 2

## EZG.1B.302.CLN
designator J?
Mate: FGG.1B.302.CLAD42; MPN: EZG.1B.302.CLN; OC_FARNELL: unknown; OC_NEWARK: unknown
footprint EZG.1B.302.CLN
pins: 1, 2, gnd

## G3VM-21ERTR
designator K?, comment G3VM-21ER
solid state relay; Mfr_Name: Omron; Copyright: Copyright (C) 2022 Ultra Librarian. All rights reserved.; Manufacturer_Part_Number: G3VM-21ER; RefDes: RefDes; Type: DEV; Supplier 1: Digi-Key; Supplier 2: Mouser; Supplier Part Number 1: Z8452CT-ND; Supplier Part Number 2: 653-G3VM-21ER
footprint E-DIP6_SMD_OMR
pins: 1, 2, 3, 4, 5, 6

## G3VM-101ER
designator K?
Solid State SPST-NO (1 Form A) 6-SMD (0.300", 7.62mm); Mfr_Name: Omron; Manufacturer_Part_Number: G3VM-21ER; Copyright: Copyright (C) 2022 Ultra Librarian. All rights reserved.; RefDes: RefDes; Type: DEV; Supplier 1: Digi-Key; Supplier Part Number 1: Z3526-ND
footprint E-DIP6_SMD_OMR
pins: 1, 2, 3, 4, 5, 6

## G5V-1 DC5
designator K?  Supplier Part Number 1: Z773-ND
SPDT 1A 5VDC Relay; Built_By: EMA_Justin; Vendor: Omron; SourceLibrary: Omron_2020-03-12; Manufacturer_Part_Number: G5V-1 DC5; Copyright: Copyright (C) 2018 Accelerated Designs. All rights reserved; RefDes: RefDes; Type: DEV; Supplier 1: Digi-Key
footprint RELAY_G5V-1_OMR
pins: 1, 2, 3, 4, 5, 6, 7, 8, 9, 10

## Generic 1206
designator C?
Capacitor
footprint 8-1206 (Chip Resistor; Body 3.1 x 1.6 mm (LxW typ))
pins: 1, 2

## GF1X Diode
designator D?
thru hole diode; Supplier 1: Digi-Key; Supplier Part Number 1: GF1BFSCT-ND
footprint DO214AC
pins: 1, 2

## HFBR-1582Z
designator U*  Supplier Part Number 1: 630-HFBR-1528Z
HFBR-1528Z Transmitter; Supplier 1: Mouser
footprint HFBR-1528Z (HFBR Transmitter)
pins: 1, 2, 3 GND, 4 GND, 5 GND, 8 GND

## HFBR-2528Z
designator U*  Supplier Part Number 1: 630-HFBR-2528Z
HFBR-2528Z Receiver; Supplier 1: Mouser
footprint HFBR-2528Z (HFBR Receiver)
pins: 1 Vo, 2 GND, 3 Vcc (power), 4 NC, 5 GND, 8 GND
text: IC

## ILQ621GB
designator U?  Supplier Part Number 1: ILQ621GB-X001-ND
Quad optoisolator; Vendor: Vishay; Built_By: EMA_UL_Team; Manufacturer_Part_Number: ILQ621GB; Copyright: Copyright (C) 2021 Accelerated Designs. All rights reserved; RefDes: RefDes; Type: DEV; Supplier 1: Digi-Key
footprint DIP16_IL
pins: 1 A (in), 2 C (out), 3 A (in), 4 C (out), 5 A (in), 6 C (out), 7 A (in), 8 C (out), 9 E (out), 10 C (in), 11 E (out), 12 C (in), 13 E (out), 14 C (in), 15 E (out), 16 C (in)

## IML0205D09
designator U?
Isolated Module DC DC Converter 2 Output 9V -9V 111mA, 111mA 4.5V - 5.5V Input; Supplier 1: Digi-Key; Supplier Part Number 1: 1470-3668-ND
footprint 7 position DC to DC converter
pins: 1 +Vin (power), 2 -Vin (power), 5 -Vout (power), 6 Com (power), 7 +Vout (power)

## INA188ID
designator U?  Supplier Part Number 1: 595-INA188IDR
Instrumentation Amplifiers 36-V, Zero-Drift, Rail-to-Rail-Out Instrumentation Amplifier 8-SOIC -40 to 125; Mfr_Name: Texas Instruments; PartNumber: INA188IDR; CompType: IC; Type: DEV; RefDes: RefDes; Copyright: Copyright (C) 2022 Ultra Librarian. All rights reserved.; Manufacturer_Part_Number: INA188ID; Digi-Key_Part_Number_1: 296-44312-ND; Application_BuildNumber: *; Alternate_PartNumber: INA188ID; PackageReference: D0008A; MountType: SMT; RoHS: Y; Manufacturer: Texas Instruments; Supplier 1: Mouser
footprint D0008A_N
pins: 1 RG, 2 IN- (in), 3 IN+ (in), 4 V- (power), 5 REF (in), 6 OUT (out), 7 V+ (power), 8 RG

## IRFL4310TRPBF
designator Q?
IRFL4310TRPBF N-Channel MOSFET, 2.2 A, 100 V IRFL4310PbF, 3 + Tab-Pin SOT-223 Infineon; Geometry.Height: 1.8mm; Mouser Part Number: 942-IRFL4310TRPBF; Mouser Price/Stock: https://www.mouser.co.uk/ProductDetail/Infineon-Technologies/IRFL4310TRPBF?qs=9%252BKlkBgLFf1%252BUd39i5tCog%3D%3D; Manufacturer_Name: Infineon; Manufacturer_Part_Number: IRFL4310TRPBF; Datasheet Link: https://www.infineon.com/dgdl/irfl4310pbf.pdf?fileId=5546d462533600a40153562804ba1fbc
footprint SOT230P700X180-4N
pins: 1 G, 2 D_1, 3 S, 4 D_2

## KMS60A-15
designator PS?  Supplier Part Number 1: 285-2537-ND
15-60W Medical AC-DC PCB-Mount Power Supplies; MP: KMS60A-15; MF: {'manufacturer': u'TDK-Lambda Americas'}; Price: None; Package: None; Value: *; Availability: Unavailable; Supplier 1: Digi-Key
footprint CONV_KMS60A-15
pins: 1 AC(L) (in), 2 AC(N) (in), 3 +VOUT (out), 5 -VOUT (out), 7 NC

## L7905CV
designator U?, comment L7905  Supplier Part Number 1: 497-1472-5-ND
Negative Linear regulator; Supplier 1: Digi-Key
footprint TO-220-2 (TO-220)
pins: 1 Gnd (power), 2 In (power), 3 -5V Out (power)

## LM317LCD
designator U?
Linear Voltage Regulator IC Positive Adjustable 1 Output 100mA 8-SOIC; Mfr_Name: Texas Instruments; Copyright: Copyright (C) 2022 Ultra Librarian. All rights reserved.; Manufacturer_Part_Number: LM317LCD; Digi-Key_Part_Number_1: 296-26092-5-ND; Digi-Key_Part_Number_2: 2156-LM317LCD-ND; RefDes: RefDes; Type: DEV; Supplier 1: Digi-Key; Supplier Part Number 1: 296-26092-5-ND
footprint D8
pins: 1 INPUT (in), 2 OUTPUT (out), 3 OUTPUT (out), 4 ADJUSTMENT, 5 NC, 6 OUTPUT (out), 7 OUTPUT (out), 8 NC

## LM317LCDR
designator U?  Supplier Part Number 1: 296-49700-1-ND
3/8 Pin 100mA Adjustable Positive Regulator; Manufacturer: Texas Instruments; GENERIC_PART_NUMBER: LM317L; INDUSTRY_STD_PKG_TYPE: SOIC; FAMILY_NAME: STANDARD VOLTAGE REGULATOR; PIN_COUNT: 8; PACKAGE_DESIGNATOR: D; Datasheet_URL: http://www.ti.com/lit/gpn/LM317L; Vendor: Texas Instruments; Manufacturer_Part_Number: LM317LCDR; Copyright: Copyright (C) 2021 Accelerated Designs. All rights reserved; RefDes: RefDes; Type: DEV; Supplier 1: Digi-Key
footprint D8
pins: 1 INPUT (in), 2 OUTPUT (out), 3 OUTPUT (out), 4 ADJUSTMENT, 5 NC, 6 OUTPUT (out), 7 OUTPUT (out), 8 NC

## LM317MABTG
designator U?  Supplier Part Number 1: LM317MABTGOS-ND
IC REG LIN POS ADJ 500MA TO220; Mfr_Name: onsemi; Copyright: Copyright (C) 2022 Ultra Librarian. All rights reserved.; Manufacturer_Part_Number: LM317MABTG; Digi-Key_Part_Number_1: =LM317MABTG; Digi-Key_Part_Number_2: LM317MABTGOS-ND; Digi-Key_Part_Number_3: 2156-LM317MABTG-OS-ND; RefDes: RefDes; Type: DEV; Supplier 1: Digi-Key
footprint TO220-3_ONS
pins: 1 ADJUST, 2 VOUT (out), 3 VIN (in)

## LM317MDTRKG
designator U?  Supplier Part Number 1: LM317MBDTGOS-ND
500mA adj LDO; Mfr_Name: ON Semiconductor; Copyright: Copyright (C) 2021 Ultra Librarian. All rights reserved.; Manufacturer_Part_Number: LM317MDTRKG; Digi-Key_Part_Number_1: 2156-LM317MDTRKG-OS-ND; Digi-Key_Part_Number_2: =LM317MDTRKG; Digi-Key_Part_Number_3: LM317MDTRKGOSCT-ND; Digi-Key_Part_Number_4: LM317MDTRKGOSDKR-ND; Digi-Key_Part_Number_5: LM317MDTRKGOSTR-ND; RefDes: RefDes; Type: DEV; Supplier 1: Digi-Key
footprint TO252AA-GDS
pins: 1 ADJUST, 2 VOUT (out), 3 VIN (in)

## LM324KAD
designator U?
General Purpose Quad Opamp; Mfr_Name: Texas Instruments; Copyright: Copyright (C) 2021 Ultra Librarian. All rights reserved.; Manufacturer_Part_Number: LM324KAD; Digi-Key_Part_Number_1: 296-33314-5-ND; Digi-Key_Part_Number_2: 2156-LM324KAD-ND; RefDes: RefDes; Type: DEV; Supplier 1: Digi-Key; Supplier Part Number 1: 296-33314-5-ND
footprint D14
pins: 1 1OUT (out), 2 1IN- (in), 3 1IN+ (in), 4 VCC (power), 5 2IN+ (in), 6 2IN- (in), 7 2OUT (out), 8 3OUT (out), 9 3IN- (in), 10 3IN+ (in), 11 GND (power), 12 4IN+ (in), 13 4IN- (in), 14 4OUT (out)

## LM2940CT-5.0/NOP
designator U?, comment Part Number: LM2940CT-5.0/NOPB  Supplier Part Number 1: LM2940CT-5.0/NOPB-ND
5V linear regulator; Vendor: Texas Instruments; Built_By: EMA_UL_Team; Manufacturer_Part_Number: LM2940CT-5.0/NOPB; Copyright: Copyright (C) 2018 Accelerated Designs. All rights reserved; RefDes: RefDes; Type: DEV; Value: Value; Supplier 1: Digi-Key
footprint TO-220-2 (TO-220)
pins: 1 Vin (in), 2 GND, 3 Vout (out)

## LMC6484AIN/NOPB
designator U?  Supplier Part Number 1: LMC6484AIN/NOPB-ND
Quad opamp; Vendor: Texas Instruments; Built_By: EMA_UL_Team; SourceLibrary: National_2011-09-26; Manufacturer_Part_Number: LMC6484AIN/NOPB; Copyright: Copyright (C) 2018 Accelerated Designs. All rights reserved; RefDes: RefDes; Type: DEV; Supplier 1: Digi-Key
footprint DIP14
pins: 1 OUTA (out), 2 -INA (in), 3 +INA (in), 4 V+, 5 +INB (in), 6 -INB (in), 7 OUTB (out), 8 OUTC (out), 9 -INC (in), 10 +INC (in), 11 V-, 12 +IND (in), 13 -IND (in), 14 OUTD (out)

## LP2954IT
designator U?  Supplier Part Number 1: LP2954IT/NOPB-ND
Linear regulator; Supplier 1: Digi-Key
footprint TO-220
pins: 1 6-30V In (power), 2 Ground (power), 3 5V Out (power)

## LT1763MPS8#PBF
designator U?  Supplier Part Number 1: LT1763MPS8#PBF-ND  (hidden comment: LT1763MPS8#PBF)
Adjustable output LDO; Built_By: EMA_UL_Team; Vendor: Linear Technology; SourceLibrary: LinearTech_2016-05-13_8; Manufacturer_Part_Number: LT1763MPS8#PBF; Copyright: Copyright (C) 2021 Accelerated Designs. All rights reserved; RefDes: RefDes; Type: DEV; Supplier 1: Digi-Key
footprint SO-8_S_LIT
pins: 1 OUT (out), 2 SENSE/ADJ (io), 3 GND (power), 4 BYP, 5 *SHDN, 6 GND (power), 7 GND (power), 8 IN (in)

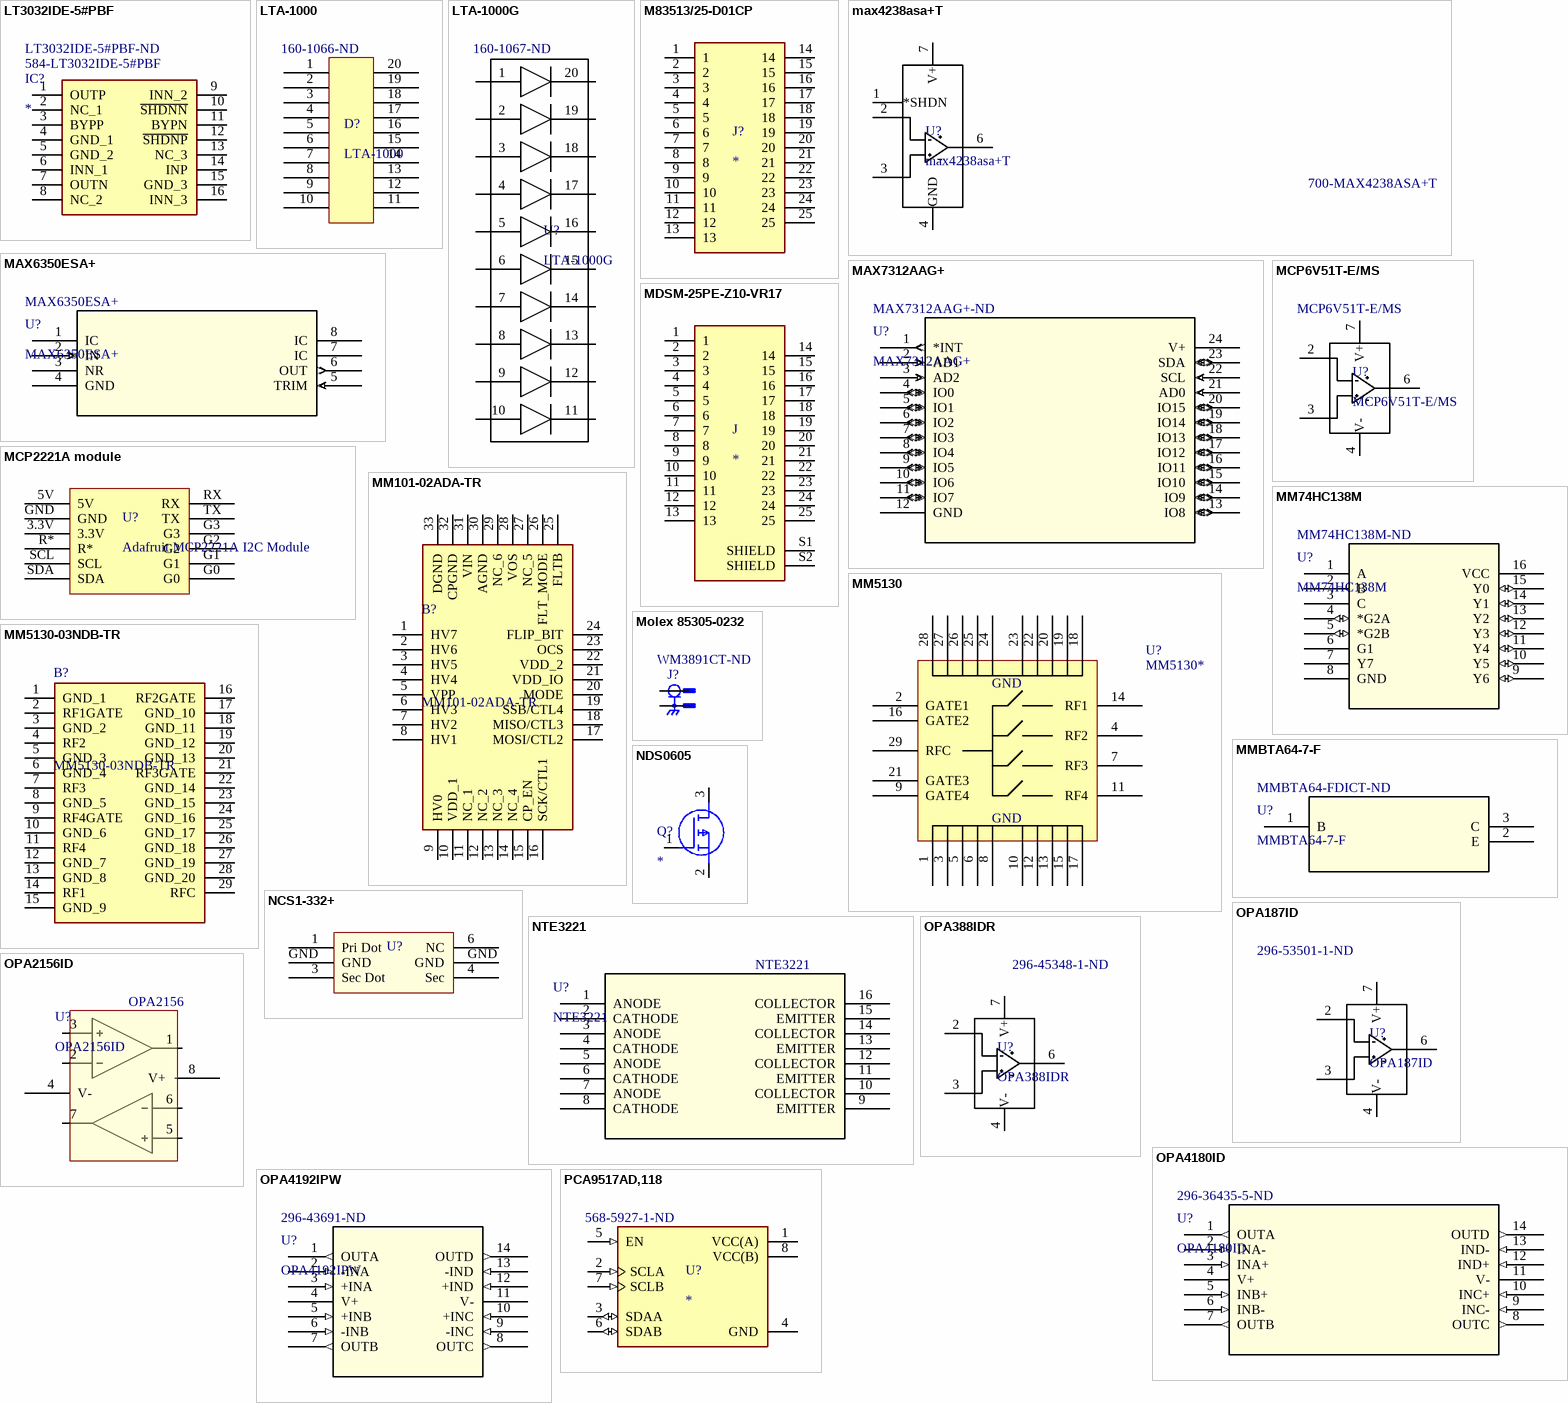
[diagram p7: symbols LT3032IDE-5#PBF to PCA9517AD,118]

## LT3032IDE-5#PBF
designator IC?  Supplier Part Number 1: 584-LT3032IDE-5#PBF  Supplier Part Number 2: LT3032IDE-5#PBF-ND
Integrated Circuit; Manufacturer_Name: Analog Devices; Manufacturer_Part_Number: LT3032IDE-5#PBF; Datasheet Link: https://www.analog.com/media/en/technical-documentation/data-sheets/3032ff.pdf; Height: 0.8mm; Supplier 1: Mouser; Supplier 2: Digi-Key
footprint LT3032IDE5PBF
pins: 1 OUTP, 2 NC_1, 3 BYPP, 4 GND_1, 5 GND_2, 6 INN_1, 7 OUTN, 8 NC_2, 9 INN_2, 10 ~{SHDNN}, 11 BYPN, 12 ~{SHDNP}, 13 NC_3, 14 INP, 15 GND_3, 16 INN_3

## LTA-1000
designator D?  Supplier Part Number 1: 160-1066-ND
Supplier 1: Digi-Key
footprint DIP-20
pins: 1, 2, 3, 4, 5, 6, 7, 8, 9, 10, 11, 12, 13, 14, 15, 16, 17, 18, 19, 20

## LTA-1000G
designator U?  Supplier Part Number 1: 160-1067-ND
10 segment green bar LED; Supplier 1: Digi-Key
footprint DIP20
pins: 1, 2, 3, 4, 5, 6, 7, 8, 9, 10, 11, 12, 13, 14, 15, 16, 17, 18, 19, 20

## M83513/25-D01CP
designator J?
MIL-DTL-83513 PCB Mounted Connector | Socket | 25 Positions | Shell Finish - Cadmium | Female | PCB Solder Pins | 0.109" (2.77 mm) Pin Length; MP: M83513/25-D01CP; Package: None; Price: None; Value: *; Availability: Unavailable
footprint BEL_M83513/25-D01CP
pins: 1, 2, 3, 4, 5, 6, 7, 8, 9, 10, 11, 12, 13, 14, 15, 16, 17, 18, 19, 20, 21, 22, 23, 24, 25

## max4238asa+T
designator U?  Supplier Part Number 1: 700-MAX4238ASA+T
General Purpose Amplifier 1 Circuit Rail-to-Rail 8-SOIC; Mfr_Name: Maxim Integrated Products; Copyright: Copyright (C) 2022 Ultra Librarian. All rights reserved.; Digi-Key_Part_Number_1: MAX4238ASA+CT-ND; Digi-Key_Part_Number_2: MAX4238ASA+DKR-ND; Digi-Key_Part_Number_3: MAX4238ASA+T-ND; Digi-Key_Part_Number_4: MAX4238ASA+TR-ND; RefDes: RefDes; Type: DEV; Supplier 1: Mouser; Manufacturer_Part_Number: max4238asa+T
footprint 21-0041B_8_MXM
pins: 1 *SHDN, 2, 3, 4 GND, 6, 7 V+

## MAX6350ESA+
designator U?
No Description Available; Mfr_Name: Maxim Integrated Products; Copyright: Copyright (C) 2022 Ultra Librarian. All rights reserved.; Manufacturer_Part_Number: MAX6350ESA+; Digi-Key_Part_Number_1: MAX6350ESA+-CRL-ND; Digi-Key_Part_Number_2: MAX6350ESA+-ND; RefDes: RefDes; Type: DEV; Supplier 1: Arrow Electronics; Supplier Part Number 1: MAX6350ESA+
footprint 21-0041B_8_MXM
pins: 1 IC, 2 IN (in), 3 NR, 4 GND (power), 5 TRIM (in), 6 OUT (out), 7 IC, 8 IC

## MAX7312AAG+
designator U?  Supplier Part Number 1: MAX7312AAG+-ND
I/O Expander 16 I²C, SMBus 400 kHz 24-SSOP; Mfr_Name: Maxim Integrated Products; Copyright: Copyright (C) 2022 Ultra Librarian. All rights reserved.; Manufacturer_Part_Number: MAX7312AAG+; Digi-Key_Part_Number_1: MAX7312AAG+-ND; RefDes: RefDes; Type: DEV; Supplier 1: Digi-Key
footprint 21-0056C_24
pins: 1 *INT (out), 2 AD1 (in), 3 AD2 (in), 4 IO0 (io), 5 IO1 (io), 6 IO2 (io), 7 IO3 (io), 8 IO4 (io), 9 IO5 (io), 10 IO6 (io), 11 IO7 (io), 12 GND (power), 13 IO8 (io), 14 IO9 (io), 15 IO10 (io), 16 IO11 (io), 17 IO12 (io), 18 IO13 (io), 19 IO14 (io), 20 IO15 (io), 21 AD0 (in), 22 SCL (in), 23 SDA (io), 24 V+ (power)

## MCP6V51T-E/MS
designator U?
Zero-Drift Amplifier 1 Circuit Rail-to-Rail 8-MSOP; Mfr_Name: Texas Instruments; Manufacturer_Part_Number: OPA187ID; Copyright: Copyright (C) 2022 Ultra Librarian. All rights reserved.; Digi-Key_Part_Number_1: 296-53081-ND; RefDes: RefDes; Type: DEV; Supplier 1: Arrow Electronics; Supplier Part Number 1: MCP6V51T-E/MS
footprint MSOP8_MS_MCH
pins: 2, 3, 4 V-, 6, 7 V+

## MCP2221A module
designator U?, comment Adafruit MCP2221A I2C Module
footprint MCP2221A module (Adafruit MCP2221A)
pins: 3.3V, 5V, G0, G1, G2, G3, GND, R*, RX, SCL, SDA, TX

## MDSM-25PE-Z10-VR17
designator J
25 Position D-Type, Micro-D Plug, Male Pins Connector; MP: MDSM-25PE-Z10-VR17; MF: ITT Cannon, LLC; Price: None; SnapEDA_Link: https://www.snapeda.com/parts/MDSM-25PE-Z10-VR17/ITT%20Cannon%2C%20LLC/view-part/4593305/?ref=snap; Value: *; Availability: Unavailable; Package: None
footprint ITT_MDSM-25PE-Z10-VR17
pins: 1, 2, 3, 4, 5, 6, 7, 8, 9, 10, 11, 12, 13, 14, 15, 16, 17, 18, 19, 20, 21, 22, 23, 24, 25, S1 SHIELD, S2 SHIELD

## MM74HC138M
designator U?  Supplier Part Number 1: MM74HC138M-ND
3:8 line decoder; Vendor: ON Semiconductor; Built_By: EMA_Molly; SourceLibrary: OnSemi_2021-05-28_2; Manufacturer_Part_Number: MM74HC138M; Copyright: Copyright (C) 2018 Accelerated Designs. All rights reserved; RefDes: RefDes; Type: DEV; Supplier 1: Digi-Key
footprint SOIC16_4X10_ONS
pins: 1 A, 2 B, 3 C, 4 *G2A (io), 5 *G2B (io), 6 G1, 7 Y7, 8 GND, 9 Y6 (io), 10 Y5 (io), 11 Y4 (io), 12 Y3 (io), 13 Y2 (io), 14 Y1 (io), 15 Y0 (io), 16 VCC (power)

## MM101-02ADA-TR
designator B?
Switching Voltage Regulators 8ch Charge Pump Driver IC - QFN; Manufacturer_Name: Menlo Microsystems, Inc.; Geometry.Height: 1mm; Mouser Part Number: *; Mouser Price/Stock: *; Manufacturer_Part_Number: MM101-02ADA-TR; Datasheet Link: *
footprint QFN50P500X500X100-33N-D
pins: 1 HV7, 2 HV6, 3 HV5, 4 HV4, 5 VPP, 6 HV3, 7 HV2, 8 HV1, 9 HV0, 10 VDD_1, 11 NC_1, 12 NC_2, 13 NC_3, 14 NC_4, 15 CP_EN, 16 SCK/CTL1, 17 MOSI/CTL2, 18 MISO/CTL3, 19 SSB/CTL4, 20 MODE, 21 VDD_IO, 22 VDD_2, 23 OCS, 24 FLIP_BIT, 25 FLTB, 26 FLT_MODE, 27 NC_5, 28 VOS, 29 NC_6, 30 AGND, 31 VIN, 32 CPGND, 33 DGND

## MM5130
designator U?, comment MM5130*
High power SP4T MEMs switch; Manufacturer_Part_Number: MM5130; Manufacturer: Menlo Micro
footprint MM5130 (Standard MM5130 Footprint)
pins: 1 GND, 2 GATE1, 3 GND, 4 RF2, 5 GND, 6 GND, 7 RF3, 8 GND, 9 GATE4, 10 GND, 11 RF4, 12 GND, 13 GND, 14 RF1, 15 GND, 16 GATE2, 17 GND, 18 GND, 19 GND, 20 GND, 21 GATE3, 22 GND, 23 GND, 24 GND, 25 GND, 26 GND, 27 GND, 28 GND, 29 RFC

## MM5130-03NDB-TR
designator B?
RF Switch ICs DC-26GHz - SP4T - 2.5 mm x 2.5 mm 29 pin WL-FC;Industrial Temp with 3B Cycles Mechanical Endurance at 25C; Manufacturer_Name: Menlo Microsystems, Inc.; Geometry.Height: 0.939mm; Manufacturer_Part_Number: MM5130-03NDB-TR; Mouser Part Number: 899-MM5130-03C; Mouser Price/Stock: https://www.mouser.co.uk/ProductDetail/Menlo-Micro/MM5130-03NDB-TR?qs=T%252BzbugeAwjibhPiaJVpzHA%3D%3D; Arrow Part Number: *; Arrow Price/Stock: *; Datasheet Link: https://menlomicro.com/images/general/MM5130_Datasheet.pdf
footprint MM513003NDBTR
pins: 1 GND_1, 2 RF1GATE, 3 GND_2, 4 RF2, 5 GND_3, 6 GND_4, 7 RF3, 8 GND_5, 9 RF4GATE, 10 GND_6, 11 RF4, 12 GND_7, 13 GND_8, 14 RF1, 15 GND_9, 16 RF2GATE, 17 GND_10, 18 GND_11, 19 GND_12, 20 GND_13, 21 RF3GATE, 22 GND_14, 23 GND_15, 24 GND_16, 25 GND_17, 26 GND_18, 27 GND_19, 28 GND_20, 29 RFC

## MMBTA64-7-F
designator U?  Supplier Part Number 1: MMBTA64-FDICT-ND
PNP Darlington; Mfr_Name: Diodes Inc; Copyright: Copyright (C) 2021 Ultra Librarian. All rights reserved.; Manufacturer_Part_Number: MMBTA64-7-F; Digi-Key_Part_Number_1: MMBTA64-FDICT-ND; Digi-Key_Part_Number_2: MMBTA64-FDIDKR-ND; Digi-Key_Part_Number_3: MMBTA64-FDITR-ND; RefDes: RefDes; Type: DEV; Supplier 1: Digi-Key
footprint SOT23-123
pins: 1 B, 2 E, 3 C

## Molex 85305-0232
designator J?  Supplier Part Number 1: WM3891CT-ND
SMP Connector Plug, Male Pin 50Ohm Surface Mount Solder; MP: 853050232; MF: Molex; Check_prices: https://www.snapeda.com/parts/853050232/Molex/view-part/?ref=eda; Value: *; Availability: In Stock; Price: None; Package: None; SnapEDA_Link: https://www.snapeda.com/parts/853050232/Molex/view-part/?ref=snap; Purchase-URL: https://pricing.snapeda.com/search/part/853050232/?ref=eda; Supplier 1: Digi-Key
footprint MOLEX_85305-0232
pins: 1, gnd

## NCS1-332+
designator U?
RF Balun 700MHz ~ 3.3GHz 50 / 50Ohm 0805 (2012 Metric), 6 PC Pad; Supplier 1: Digi-Key; Supplier Part Number 1: 3157-NCS1-332+CT-ND
footprint GE0805C-9
pins: 1 Pri Dot, 3 Sec Dot, 4 Sec, 6 NC, GND, GND

## NDS0605
designator Q?
MOSFET (P-Channel); Manufacturer_Name: onsemi; Manufacturer_Part_Number: NDS0605; Datasheet Link: https://www.onsemi.com/pub/Collateral/NDS0605-D.PDF; Height: 1.11mm; Mouser Part Number: 512-NDS0605; Mouser Price/Stock: https://www.mouser.co.uk/ProductDetail/ON-Semiconductor-Fairchild/NDS0605?qs=FOlmdCx%252BAA3MLJlVAfYlkA%3D%3D; Arrow Part Number: NDS0605; Arrow Price/Stock: https://www.arrow.com/en/products/nds0605/on-semiconductor?region=nac
footprint SOT96P237X111-3N
pins: 1 G, 2 S, 3 D

## NTE3221
designator U?
quad optocoupler; Manufacturer_Part_Number: PS2502-4-A; Vendor: Renesas Electronics; Built_By: EMA_Anthony; SourceLibrary: Add_to_database_2021-03-30; Datasheet: https://www.renesas.com/us/en/document/dst/ps2502-1-ps2502-4-ps2502l-1-ps2502l-4-data-sheet; Copyright: Copyright (C) 2018 Accelerated Designs. All rights reserved; RefDes: RefDes; Type: DEV; Supplier 1: Digi-Key; Supplier 2: Digi-Key; Supplier Part Number 1: ED2204-ND; Supplier Part Number 2: 2368-NTE3221-ND
footprint DIP16_socket_surfacemount
pins: 1 ANODE, 2 CATHODE, 3 ANODE, 4 CATHODE, 5 ANODE, 6 CATHODE, 7 ANODE, 8 CATHODE, 9 EMITTER, 10 COLLECTOR, 11 EMITTER, 12 COLLECTOR, 13 EMITTER, 14 COLLECTOR, 15 EMITTER, 16 COLLECTOR

## OPA187ID
designator U?  Supplier Part Number 1: 296-53501-1-ND
0.001-μV/°C Drift, Low Power, Rail-to-Rail Output / 36-V Operational Amplifiers Zero-Drift Series; Mfr_Name: Texas Instruments; Copyright: Copyright (C) 2022 Ultra Librarian. All rights reserved.; Manufacturer_Part_Number: OPA187ID; Digi-Key_Part_Number_1: 296-53081-ND; RefDes: RefDes; Type: DEV; Supplier 1: Digi-Key
footprint D8_TEX
simulation model AOL_1_OPAx187 (Model Description)
pins: 2, 3, 4 V-, 6, 7 V+

## OPA388IDR
designator U?  Supplier Part Number 1: 296-45348-1-ND
Precision, Zero-Drift, Zero-Crossover, True Rail-to-Rail, Input/Output / Operational Amplifiers; Mfr_Name: Texas Instruments; Copyright: Copyright (C) 2022 Ultra Librarian. All rights reserved.; Manufacturer_Part_Number: OPA388IDR; Digi-Key_Part_Number_1: 296-45348-1-ND; Digi-Key_Part_Number_2: 296-45348-2-ND; Digi-Key_Part_Number_3: 296-45348-6-ND; RefDes: RefDes; Type: DEV; Supplier 1: Digi-Key
footprint D8_TEX
pins: 2, 3, 4 V-, 6, 7 V+

## OPA2156ID
designator U?
Manufacturer: Texas Instruments; PartNumber: OPA2156ID; RefDes: RefDes; Type: DEV; Value: Value; Copyright: Copyright (C) 2021 Accelerated Designs. All rights reserved; Supplier 1: Digi-Key; Supplier Part Number 1: 296-53082-ND
footprint D0008A-IPC_A
pins: 1 OUT_A, 2 -IN_A (hiz), 3 +IN_A (hiz), 4 V- (power), 5 +IN_B (hiz), 6 -IN_B (hiz), 7 OUT_B, 8 V+ (power)
text: OPA2156

## OPA4180ID
designator U?  Supplier Part Number 1: 296-36435-5-ND
No Description Available; Vendor: Texas Instruments; Built_By: EMA_UL_Team; SourceLibrary: TI_2015-1-5; Manufacturer_Part_Number: OPA4180ID; Copyright: Copyright (C) 2021 Accelerated Designs. All rights reserved; RefDes: RefDes; Type: DEV; Supplier 1: Digi-Key
footprint D14_TEX
pins: 1 OUTA (out), 2 INA- (in), 3 INA+ (in), 4 V+ (power), 5 INB+ (in), 6 INB- (in), 7 OUTB (out), 8 OUTC (out), 9 INC- (in), 10 INC+ (in), 11 V- (power), 12 IND+ (in), 13 IND- (in), 14 OUTD (out)

## OPA4192IPW
designator U?  Supplier Part Number 1: 296-43691-ND
Quad Opamp; Mfr_Name: Texas Instruments; Copyright: Copyright (C) 2022 Ultra Librarian. All rights reserved.; Manufacturer_Part_Number: OPA4192IPW; Digi-Key_Part_Number_1: 296-43691-ND; Digi-Key_Part_Number_2: OPA4192IPW-CRL-ND; Digi-Key_Part_Number_3: 2156-OPA4192IPW-ND; RefDes: RefDes; Type: DEV; Supplier 1: Digi-Key
footprint PW14_TEX
pins: 1 OUTA (out), 2 -INA (in), 3 +INA (in), 4 V+ (power), 5 +INB (in), 6 -INB (in), 7 OUTB (out), 8 OUTC (out), 9 -INC (in), 10 +INC (in), 11 V- (power), 12 +IND (in), 13 -IND (in), 14 OUTD (out)

## PCA9517AD,118
designator U?  Supplier Part Number 1: 568-5927-1-ND
Buffer, ReDriver 2 Channel 400kHz 8-SO; MP: PCA9517AD,118; MF: NXP USA; Value: *; Package: SO-8 NXP Semiconductors; Price: None; SnapEDA_Link: https://www.snapeda.com/parts/PCA9517AD%2C118/NXP%20USA%20Inc./view-part/537115/?ref=snap; Availability: Unavailable; Supplier 1: Digi-Key
footprint SOIC127P600X175-8N
pins: 1 VCC(A) (power), 2 SCLA (in), 3 SDAA (io), 4 GND (power), 5 EN (in), 6 SDAB (io), 7 SCLB (in), 8 VCC(B) (power)

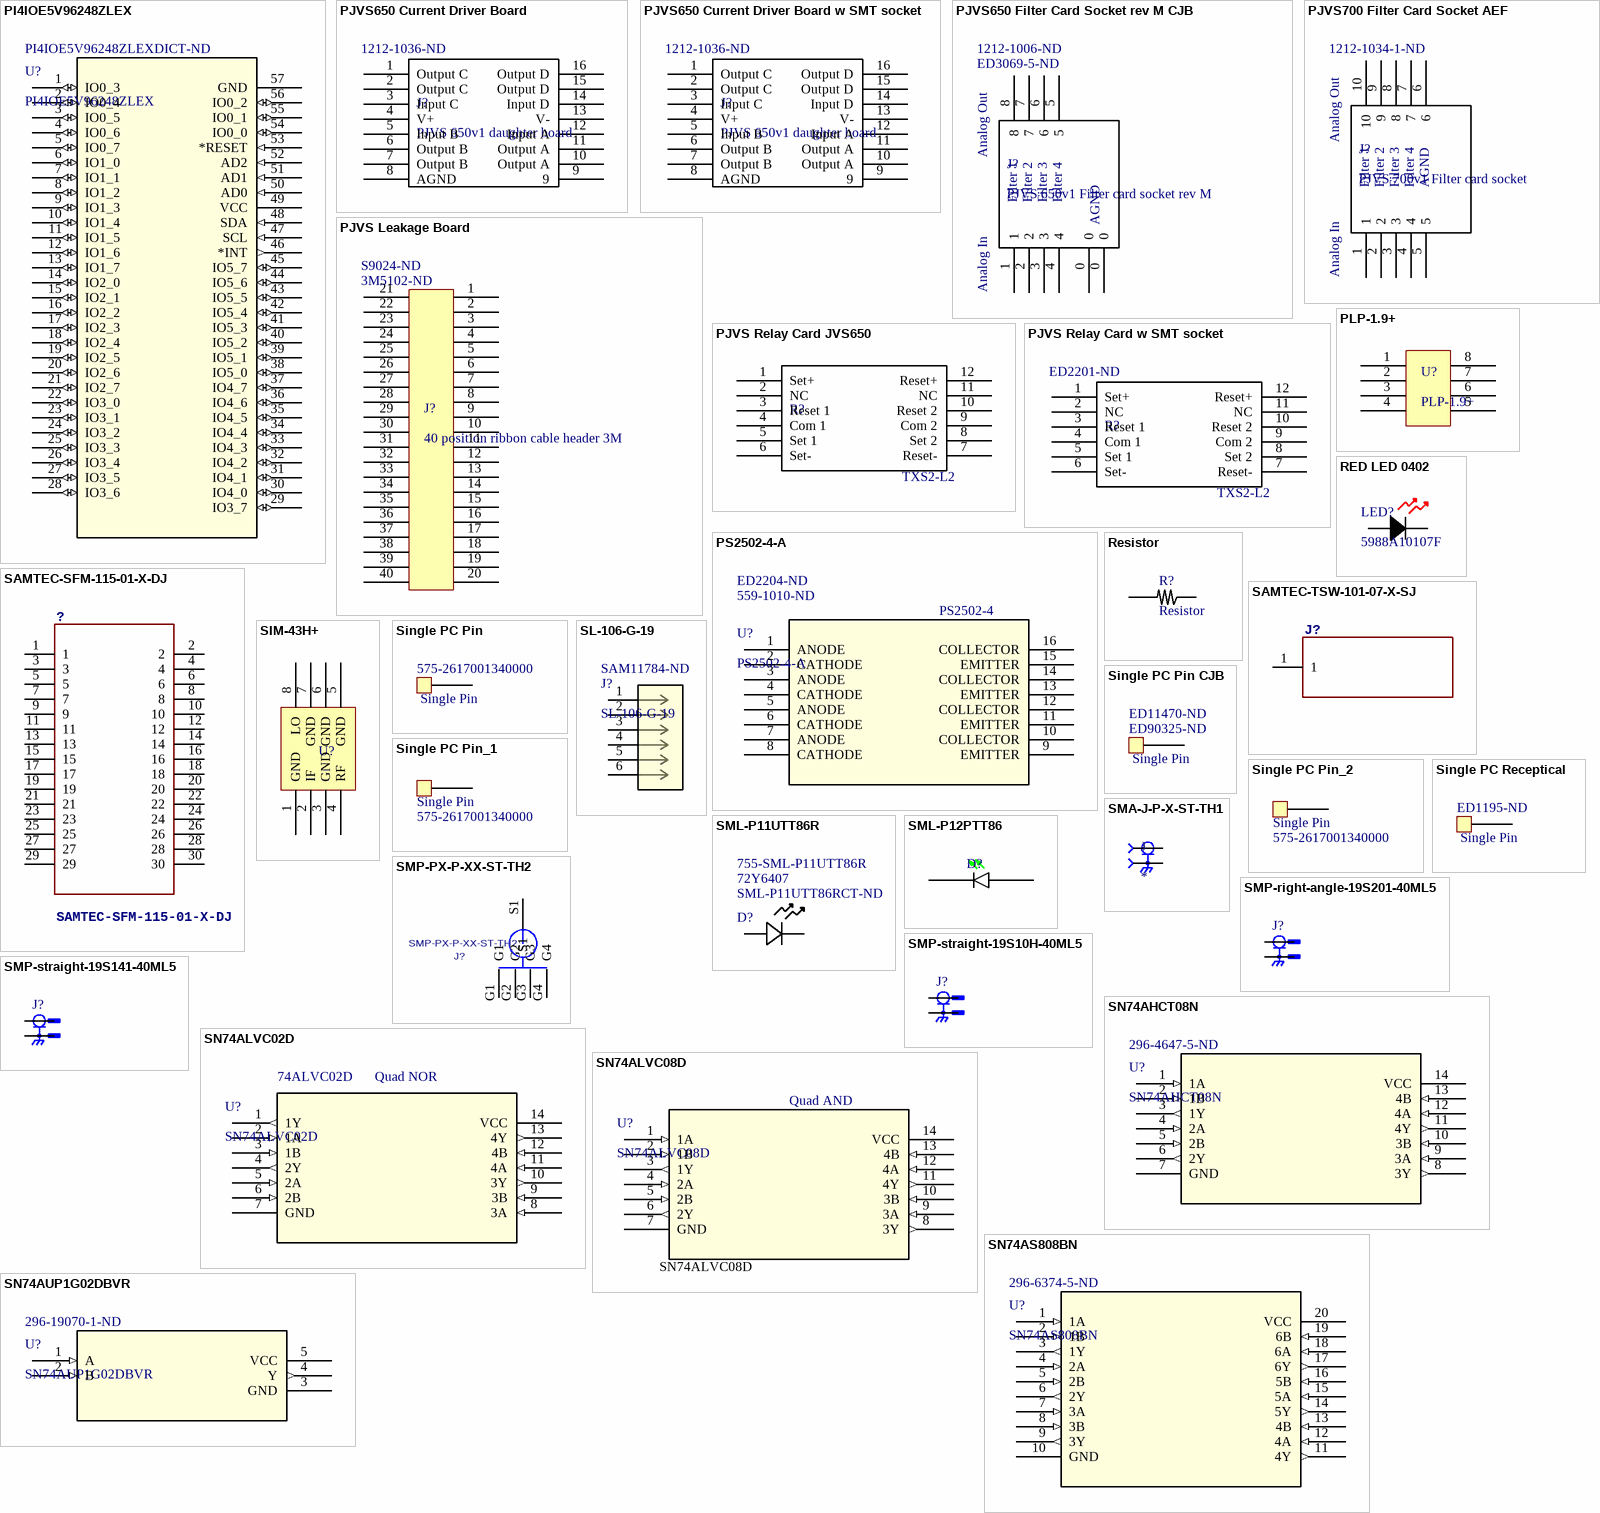
[diagram p8: symbols PI4IOE5V96248ZLEX to SN74AUP1G02DBVR]